# Altium schematic symbol library microchip.SCHLIB: 312 symbols (part 2 of 5)
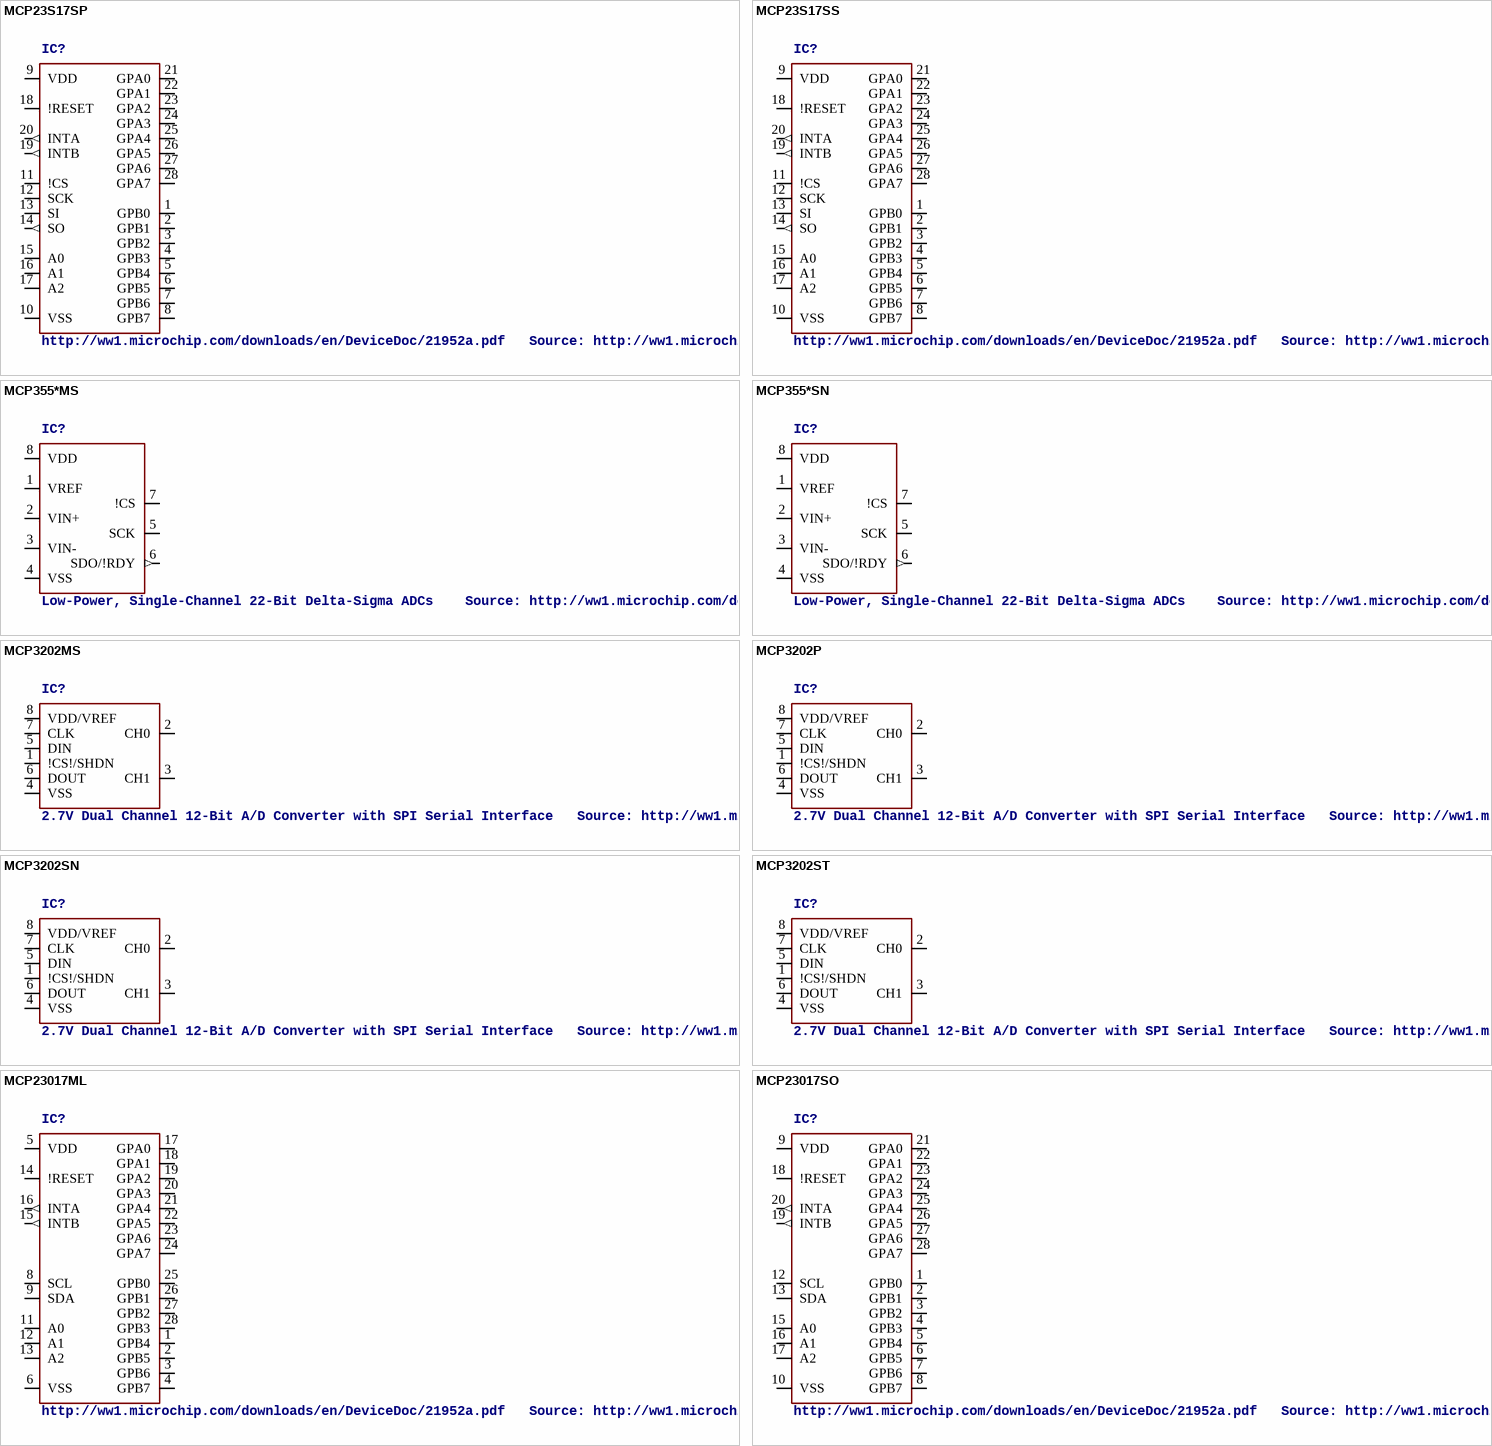
[diagram p44: symbols MCP23S17SP to MCP23017SO]

## MCP355*SN
designator IC?, comment Low-Power, Single-Channel 22-Bit Delta-Sigma ADCs    Source: http://ww1.microchip.com/downloads/en/DeviceDoc/21950c.pdf
MPN: MCP3550-50-E/SN; MPN: MCP3550-60E/SN; MPN: MCP3551-E/SN; MPN: MCP3553-E/SN; MF: MICROCHIP; OC_FARNELL: 1557411; OC_NEWARK: 69K0131; OC_FARNELL: 1840934; OC_NEWARK: 69K0135; OC_FARNELL: 1084625; OC_NEWARK: 97K4494; OC_FARNELL: 1605569; OC_NEWARK: 56K7004
footprint SO-08
pins: 1 VREF, 2 VIN+, 3 VIN-, 4 VSS (power), 5 SCK, 6 SDO/!RDY (out), 7 !CS, 8 VDD (power)

## MCP3202MS
designator IC?, comment 2.7V Dual Channel 12-Bit A/D Converter with SPI Serial Interface   Source: http://ww1.microchip.com/downloads/en/DeviceDoc/21034D.pdf
MPN: MCP3202-CI/MS; MF: MICROCHIP; OC_FARNELL: unknown; OC_NEWARK: 68H9370
footprint MSOP8
pins: 1 !CS!/SHDN, 2 CH0, 3 CH1, 4 VSS, 5 DIN, 6 DOUT, 7 CLK, 8 VDD/VREF

## MCP3202P
designator IC?, comment 2.7V Dual Channel 12-Bit A/D Converter with SPI Serial Interface   Source: http://ww1.microchip.com/downloads/en/DeviceDoc/21034D.pdf
MPN: MCP3202-CI/P; MF: MICROCHIP; OC_FARNELL: 1196794; OC_NEWARK: 72K7287
footprint DIL8
pins: 1 !CS!/SHDN, 2 CH0, 3 CH1, 4 VSS, 5 DIN, 6 DOUT, 7 CLK, 8 VDD/VREF

## MCP3202SN
designator IC?, comment 2.7V Dual Channel 12-Bit A/D Converter with SPI Serial Interface   Source: http://ww1.microchip.com/downloads/en/DeviceDoc/21034D.pdf
MPN: MCP3202-CI/SN; MF: MICROCHIP; OC_FARNELL: 1196803; OC_NEWARK: 19C7207
footprint SO-08
pins: 1 !CS!/SHDN, 2 CH0, 3 CH1, 4 VSS, 5 DIN, 6 DOUT, 7 CLK, 8 VDD/VREF

## MCP3202ST
designator IC?, comment 2.7V Dual Channel 12-Bit A/D Converter with SPI Serial Interface   Source: http://ww1.microchip.com/downloads/en/DeviceDoc/21034D.pdf
MPN: MCP3202-CI/ST; MF: MICROCHIP; OC_FARNELL: unknown; OC_NEWARK: 59K0226
footprint TSSOP8
pins: 1 !CS!/SHDN, 2 CH0, 3 CH1, 4 VSS, 5 DIN, 6 DOUT, 7 CLK, 8 VDD/VREF

## MCP23017ML
designator IC?, comment http://ww1.microchip.com/downloads/en/DeviceDoc/21952a.pdf   Source: http://ww1.microchip.com/downloads/en/DeviceDoc/21952a.pdf
MPN: MCP23017-E/ML; MF: MICROCHIP; OC_FARNELL: unknown; OC_NEWARK: 31K2957
footprint QFN28-ML_6X6MM
pins: 1 GPB4, 2 GPB5, 3 GPB6, 4 GPB7, 5 VDD (power), 6 VSS (power), 8 SCL, 9 SDA, 11 A0, 12 A1, 13 A2, 14 !RESET, 15 INTB (out), 16 INTA (out), 17 GPA0, 18 GPA1, 19 GPA2, 20 GPA3, 21 GPA4, 22 GPA5, 23 GPA6, 24 GPA7, 25 GPB0, 26 GPB1, 27 GPB2, 28 GPB3

## MCP23017SO
designator IC?, comment http://ww1.microchip.com/downloads/en/DeviceDoc/21952a.pdf   Source: http://ww1.microchip.com/downloads/en/DeviceDoc/21952a.pdf
MPN: MCP23017-E/SO; MF: MICROCHIP; OC_FARNELL: 1332087; OC_NEWARK: 31K2958
footprint SO28W
pins: 1 GPB0, 2 GPB1, 3 GPB2, 4 GPB3, 5 GPB4, 6 GPB5, 7 GPB6, 8 GPB7, 9 VDD (power), 10 VSS (power), 12 SCL, 13 SDA, 15 A0, 16 A1, 17 A2, 18 !RESET, 19 INTB (out), 20 INTA (out), 21 GPA0, 22 GPA1, 23 GPA2, 24 GPA3, 25 GPA4, 26 GPA5, 27 GPA6, 28 GPA7

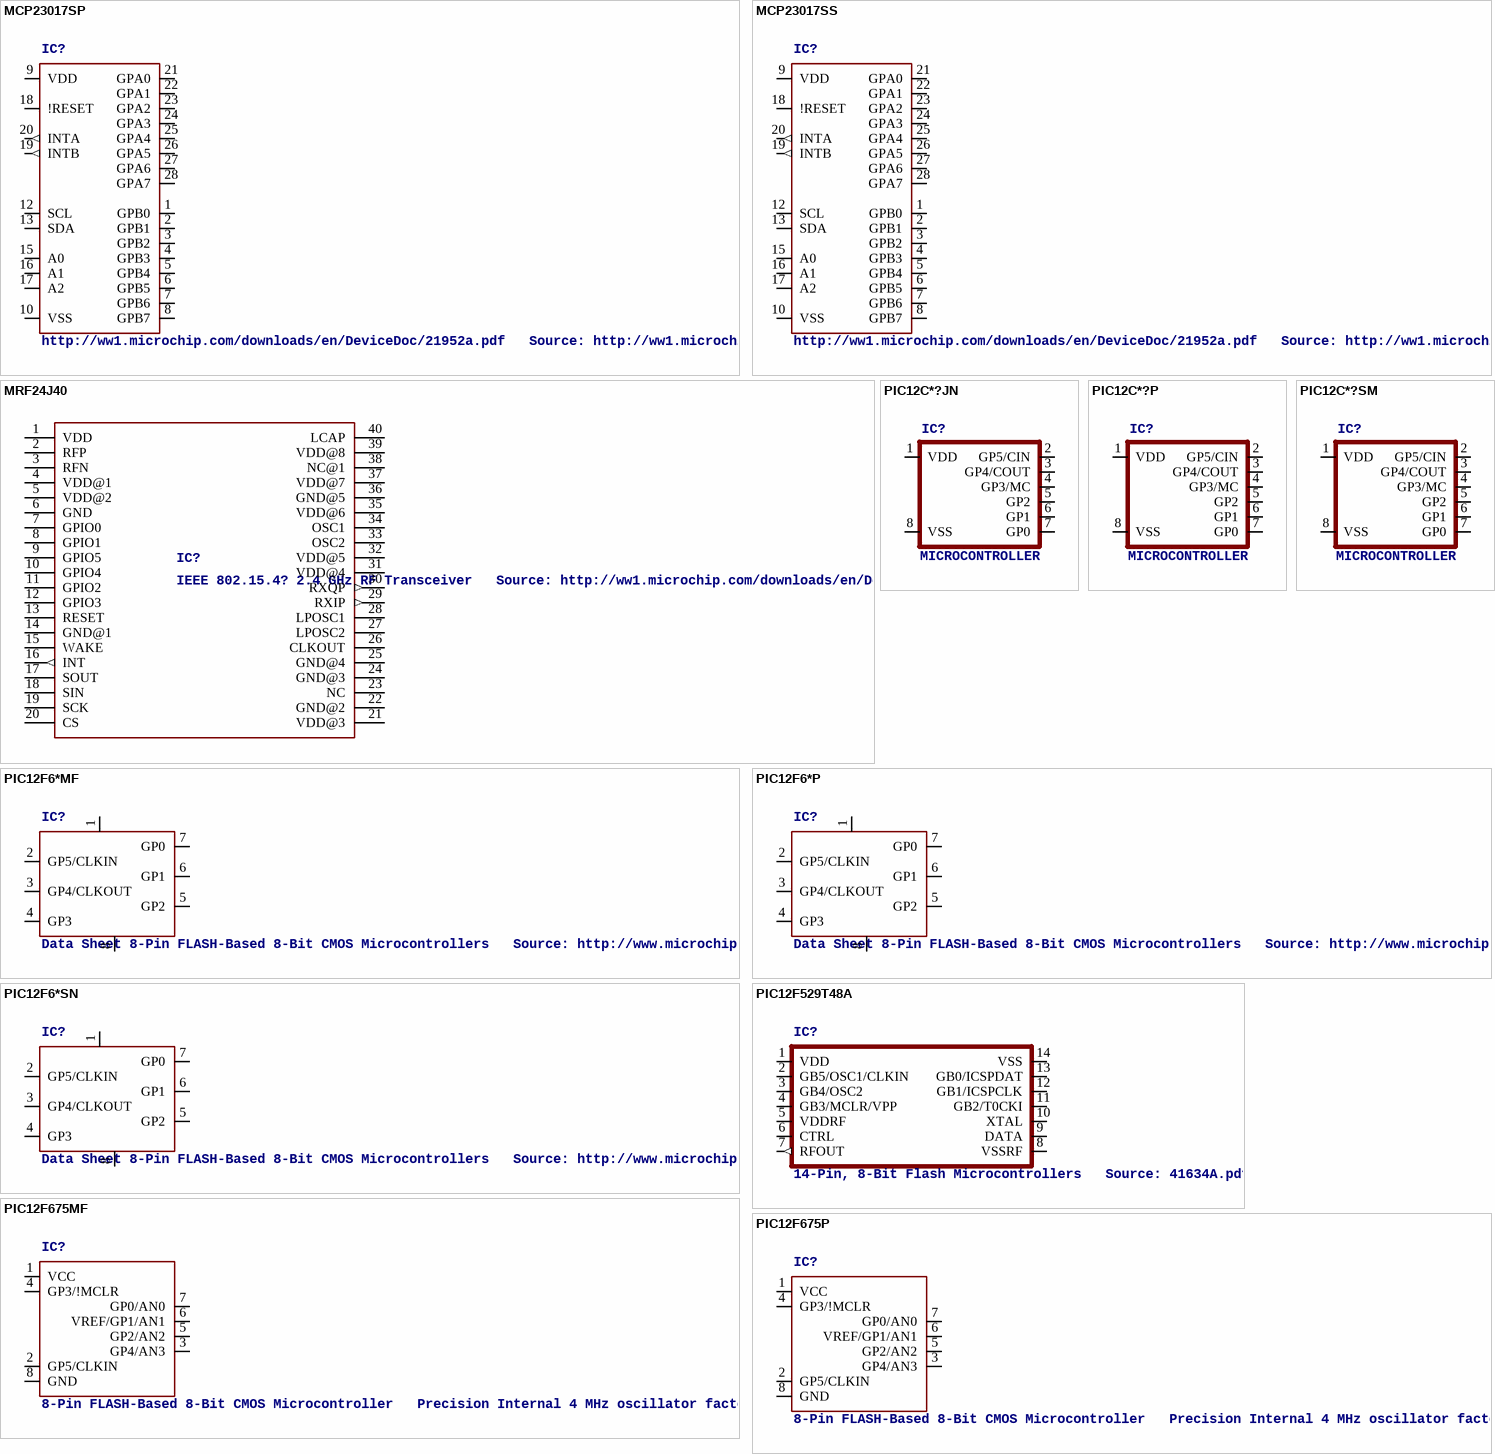
[diagram p9: symbols MCP23017SP to PIC12F675P]

## MCP23017SP
designator IC?, comment http://ww1.microchip.com/downloads/en/DeviceDoc/21952a.pdf   Source: http://ww1.microchip.com/downloads/en/DeviceDoc/21952a.pdf
MPN: MCP23017-E/SP; MF: MICROCHIP; OC_FARNELL: 1332088; OC_NEWARK: 31K2959
footprint DIL28-3
pins: 1 GPB0, 2 GPB1, 3 GPB2, 4 GPB3, 5 GPB4, 6 GPB5, 7 GPB6, 8 GPB7, 9 VDD (power), 10 VSS (power), 12 SCL, 13 SDA, 15 A0, 16 A1, 17 A2, 18 !RESET, 19 INTB (out), 20 INTA (out), 21 GPA0, 22 GPA1, 23 GPA2, 24 GPA3, 25 GPA4, 26 GPA5, 27 GPA6, 28 GPA7

## MCP23017SS
designator IC?, comment http://ww1.microchip.com/downloads/en/DeviceDoc/21952a.pdf   Source: http://ww1.microchip.com/downloads/en/DeviceDoc/21952a.pdf
MPN: MCP23017-E/SS; MF: MICROCHIP; OC_FARNELL: 1467674; OC_NEWARK: 31K2960
footprint SSOP28
pins: 1 GPB0, 2 GPB1, 3 GPB2, 4 GPB3, 5 GPB4, 6 GPB5, 7 GPB6, 8 GPB7, 9 VDD (power), 10 VSS (power), 12 SCL, 13 SDA, 15 A0, 16 A1, 17 A2, 18 !RESET, 19 INTB (out), 20 INTA (out), 21 GPA0, 22 GPA1, 23 GPA2, 24 GPA3, 25 GPA4, 26 GPA5, 27 GPA6, 28 GPA7

## MRF24J40
designator IC?, comment IEEE 802.15.4? 2.4 GHz RF Transceiver   Source: http://ww1.microchip.com/downloads/en/DeviceDoc/39776a.pdf
MPN: MRF24J40-I/ML; OC_FARNELL: 1436019; OC_NEWARK: 17M0699
footprint QFN40ML6X6MM
pins: 1 VDD (power), 2 RFP, 3 RFN, 4 VDD@1 (power), 5 VDD@2 (power), 6 GND (power), 7 GPIO0, 8 GPIO1, 9 GPIO5, 10 GPIO4, 11 GPIO2, 12 GPIO3, 13 RESET, 14 GND@1 (power), 15 WAKE, 16 INT (out), 17 SOUT, 18 SIN, 19 SCK, 20 CS, 21 VDD@3 (power), 22 GND@2 (power), 23 NC, 24 GND@3 (power), 25 GND@4 (power), 26 CLKOUT, 27 LPOSC2, 28 LPOSC1, 29 RXIP (out), 30 RXQP (out), 31 VDD@4 (power), 32 VDD@5 (power), 33 OSC2, 34 OSC1, 35 VDD@6 (power), 36 GND@5 (power), 37 VDD@7 (power), 38 NC@1, 39 VDD@8 (power), 40 LCAP

## PIC12C*?JN
designator IC?, comment MICROCONTROLLER
MPN: PIC12C508-04/P; MPN: PIC12C509A-04I/P; MPN: PIC12C671-10I/P; MPN: PIC12C672-04/P; MF: MICROCHIP; OC_FARNELL: 9758771; OC_NEWARK: 60K6710; OC_FARNELL: 9758828; OC_NEWARK: 23C2958; OC_FARNELL: 1084238; OC_NEWARK: 34M7956; OC_FARNELL: 9758887; OC_NEWARK: 59K0241
footprint DIL8
pins: 1 VDD (power), 2 GP5/CIN, 3 GP4/COUT, 4 GP3/MC, 5 GP2, 6 GP1, 7 GP0, 8 VSS (power)

## PIC12C*?P
designator IC?, comment MICROCONTROLLER
MPN: PIC12C508A-04I/P; MPN: PIC12C509-04/P; MPN: PIC12C671-10/P; MPN: PIC12C672-04/P; MF: MICROCHIP; OC_FARNELL: 9758763; OC_NEWARK: 12C1849; OC_FARNELL: 9758810; OC_NEWARK: 54K2820; OC_FARNELL: 9758860; OC_NEWARK: 23C2974; OC_FARNELL: 9758887; OC_NEWARK: 59K0241
footprint DIL8
pins: 1 VDD (power), 2 GP5/CIN, 3 GP4/COUT, 4 GP3/MC, 5 GP2, 6 GP1, 7 GP0, 8 VSS (power)

## PIC12C*?SM
designator IC?, comment MICROCONTROLLER
MPN: PIC12C508-04I/SM; MPN: PIC12C509A-04I/SM; MPN: PIC12C671-10I/SM; MPN: PIC12C672-04/SM; MF: MICROCHIP; OC_FARNELL: 1196846; OC_NEWARK: 96K3762; OC_FARNELL: 9758844; OC_NEWARK: 65K1035; OC_FARNELL: 1196776; OC_NEWARK: 24M5845; OC_FARNELL: 1137297; OC_NEWARK: 72K7294
footprint SO-08M
pins: 1 VDD (power), 2 GP5/CIN, 3 GP4/COUT, 4 GP3/MC, 5 GP2, 6 GP1, 7 GP0, 8 VSS (power)

## PIC12F6*MF
designator IC?, comment Data Sheet 8-Pin FLASH-Based 8-Bit CMOS Microcontrollers   Source: http://www.microchip.com .. 41190c.pdf
MPN: PIC12F629-I/MD; MPN: PIC12F675-I/MD; MF: MICROCHIP; OC_FARNELL: 1618004; OC_NEWARK: 56K7222; OC_FARNELL: unknown; OC_NEWARK: 56K7227
footprint DFN-S
pins: 1 VDD (power), 2 GP5/CLKIN, 3 GP4/CLKOUT, 4 GP3, 5 GP2, 6 GP1, 7 GP0, 8 VSS (power)

## PIC12F6*P
designator IC?, comment Data Sheet 8-Pin FLASH-Based 8-Bit CMOS Microcontrollers   Source: http://www.microchip.com .. 41190c.pdf
MPN: PIC12F629-I/P; MPN: PIC12F675-E/P; MF: MICROCHIP; OC_FARNELL: 1292253; OC_NEWARK: 67K0822; OC_FARNELL: 9759018; OC_NEWARK: 92C4340
footprint DIL8
pins: 1 VDD (power), 2 GP5/CLKIN, 3 GP4/CLKOUT, 4 GP3, 5 GP2, 6 GP1, 7 GP0, 8 VSS (power)

## PIC12F6*SN
designator IC?, comment Data Sheet 8-Pin FLASH-Based 8-Bit CMOS Microcontrollers   Source: http://www.microchip.com .. 41190c.pdf
MPN: PIC12F629-I/SN; MPN: PIC12F675-E/SN; MF: MICROCHIP; OC_FARNELL: 9759000; OC_NEWARK: 61K3433; OC_FARNELL: 9759026; OC_NEWARK: 92C4341
footprint SO-08
pins: 1 VDD (power), 2 GP5/CLKIN, 3 GP4/CLKOUT, 4 GP3, 5 GP2, 6 GP1, 7 GP0, 8 VSS (power)

## PIC12F529T48A
designator IC?, comment 14-Pin, 8-Bit Flash Microcontrollers   Source: 41634A.pdf
footprint TSSOP14
pins: 1 VDD (power), 2 GB5/OSC1/CLKIN (hiz), 3 GB4/OSC2 (hiz), 4 GB3/MCLR/VPP, 5 VDDRF, 6 CTRL, 7 RFOUT (out), 8 VSSRF, 9 DATA, 10 XTAL, 11 GB2/T0CKI (hiz), 12 GB1/ICSPCLK (hiz), 13 GB0/ICSPDAT (hiz), 14 VSS (power)

## PIC12F675MF
designator IC?, comment 8-Pin FLASH-Based 8-Bit CMOS Microcontroller   Precision Internal 4 MHz oscillator factory calibrated to ±1% Low Power Features: Standby Current:  - 1 nA @ 2.0V, typical Operating Current:  - 8.5&micro;A @ 32 kHz, 2.0V, typical  - 100&micro;A @ 1 MHz, 2.0V, typical  Watchdog Timer Current:  - 300 nA @ 2.0V, typical Timer1 oscillator current: - 4&micro;A @ 32 kHz, 2.0V, typical Analog-to-Digital Converter module: - 10-bit resolution - Programmable 4-channel input - Voltage reference input   Source: http://www.microchip.com .. 41190E.pdf
MPN: PIC12F675-I/MF; MF: MICROCHIP; OC_FARNELL: unknown; OC_NEWARK: 96K3774
footprint DFN-S
pins: 1 VCC (power), 2 GP5/CLKIN, 3 GP4/AN3, 4 GP3/!MCLR, 5 GP2/AN2, 6 VREF/GP1/AN1, 7 GP0/AN0, 8 GND (power)

## PIC12F675P
designator IC?, comment 8-Pin FLASH-Based 8-Bit CMOS Microcontroller   Precision Internal 4 MHz oscillator factory calibrated to ±1% Low Power Features: Standby Current:  - 1 nA @ 2.0V, typical Operating Current:  - 8.5&micro;A @ 32 kHz, 2.0V, typical  - 100&micro;A @ 1 MHz, 2.0V, typical  Watchdog Timer Current:  - 300 nA @ 2.0V, typical Timer1 oscillator current: - 4&micro;A @ 32 kHz, 2.0V, typical Analog-to-Digital Converter module: - 10-bit resolution - Programmable 4-channel input - Voltage reference input   Source: http://www.microchip.com .. 41190E.pdf
MPN: PIC12F675-E/P; MF: MICROCHIP; OC_FARNELL: 9759018; OC_NEWARK: 92C4340
footprint DIL8
pins: 1 VCC (power), 2 GP5/CLKIN, 3 GP4/AN3, 4 GP3/!MCLR, 5 GP2/AN2, 6 VREF/GP1/AN1, 7 GP0/AN0, 8 GND (power)

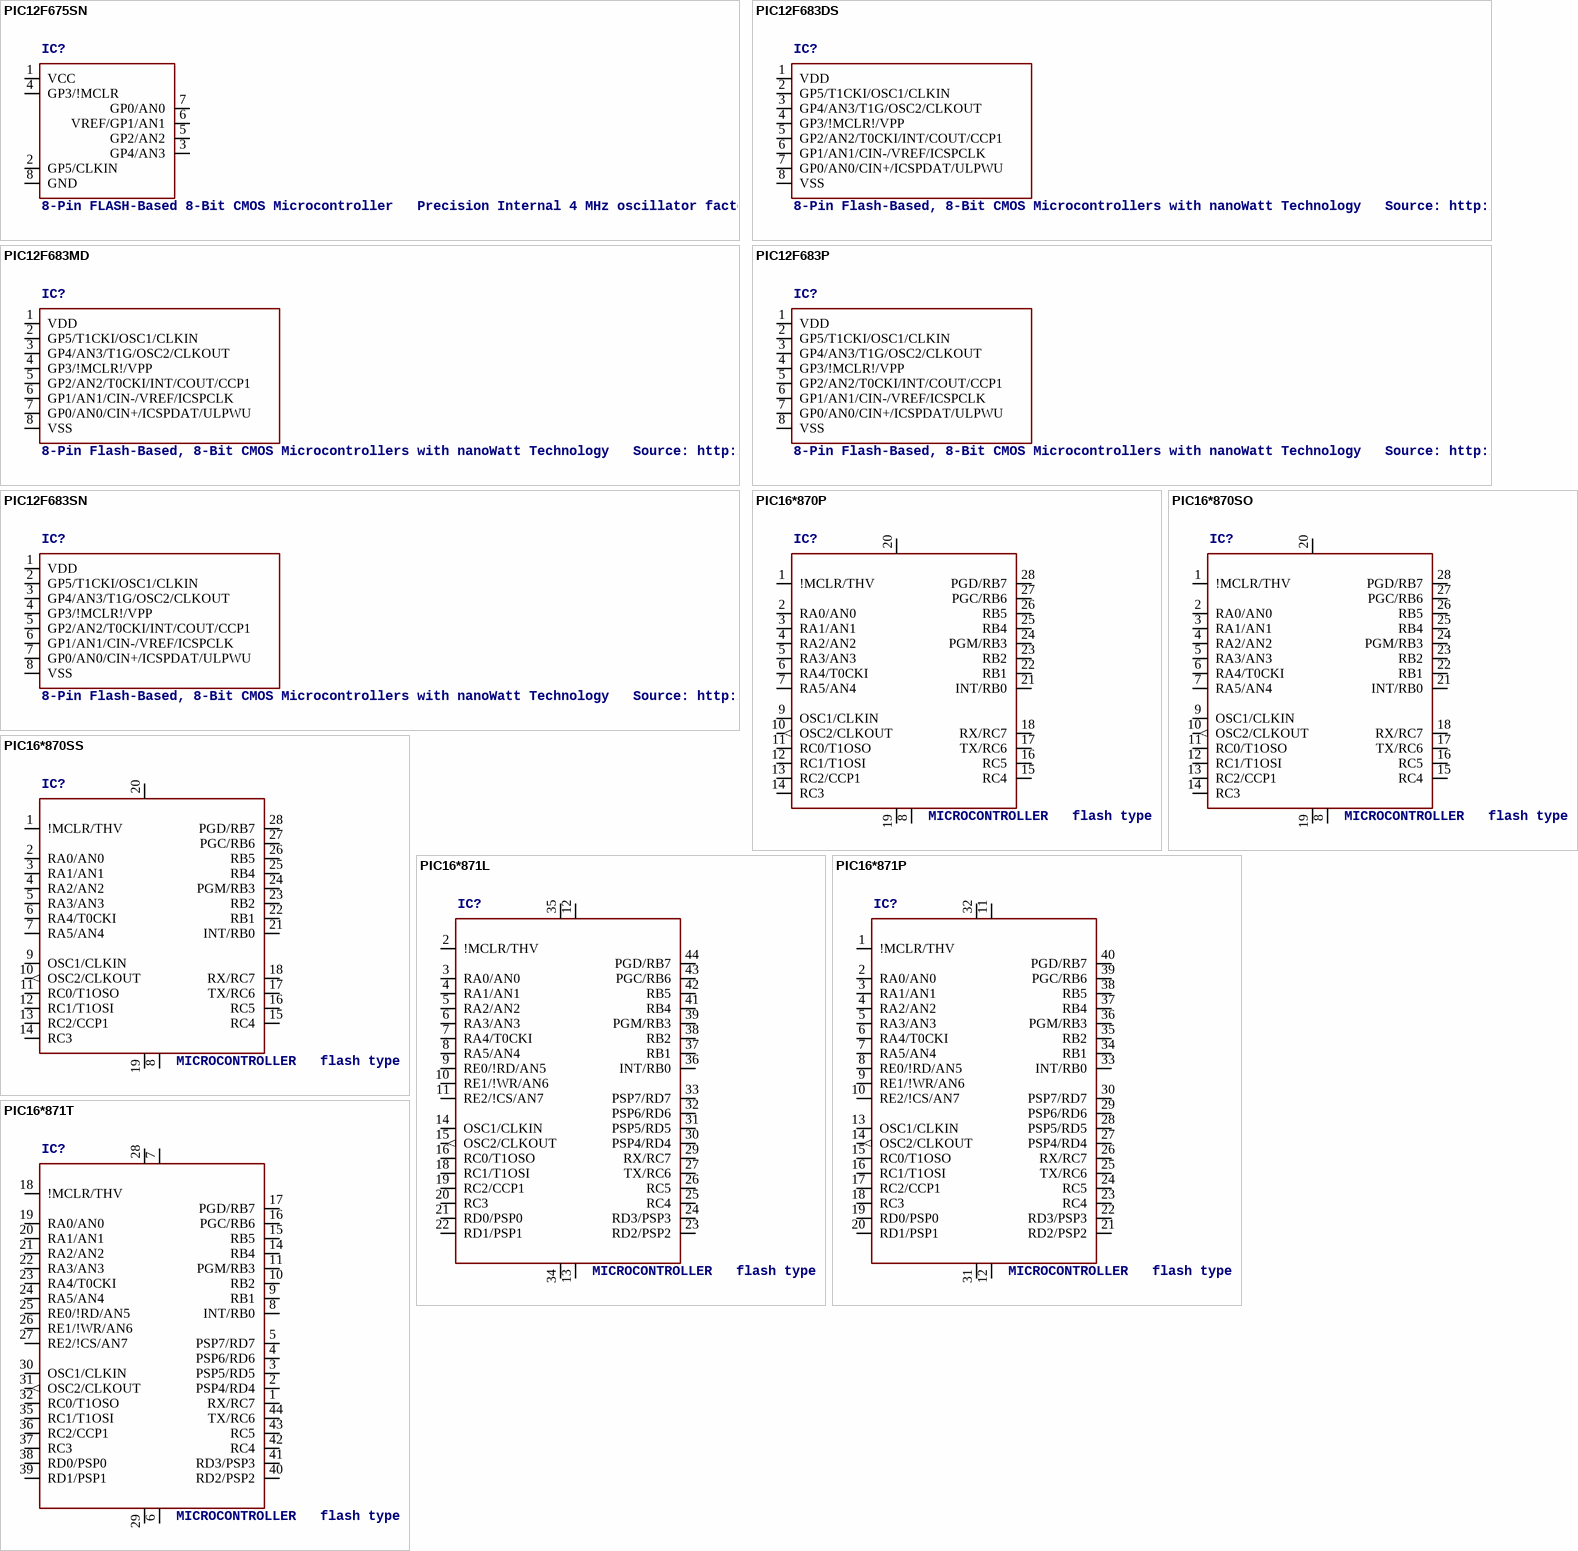
[diagram p10: symbols PIC12F675SN to PIC16*871T]

## PIC12F675SN
designator IC?, comment 8-Pin FLASH-Based 8-Bit CMOS Microcontroller   Precision Internal 4 MHz oscillator factory calibrated to ±1% Low Power Features: Standby Current:  - 1 nA @ 2.0V, typical Operating Current:  - 8.5&micro;A @ 32 kHz, 2.0V, typical  - 100&micro;A @ 1 MHz, 2.0V, typical  Watchdog Timer Current:  - 300 nA @ 2.0V, typical Timer1 oscillator current: - 4&micro;A @ 32 kHz, 2.0V, typical Analog-to-Digital Converter module: - 10-bit resolution - Programmable 4-channel input - Voltage reference input   Source: http://www.microchip.com .. 41190E.pdf
MPN: PIC12F675-E/SN; MF: MICROCHIP; OC_FARNELL: 9759026; OC_NEWARK: 92C4341
footprint SO-08
pins: 1 VCC (power), 2 GP5/CLKIN, 3 GP4/AN3, 4 GP3/!MCLR, 5 GP2/AN2, 6 VREF/GP1/AN1, 7 GP0/AN0, 8 GND (power)

## PIC12F683DS
designator IC?, comment 8-Pin Flash-Based, 8-Bit CMOS Microcontrollers with nanoWatt Technology   Source: http://ww1.microchip.com/downloads/en/DeviceDoc/41211D_.pdf
MPN: PIC12F683-I/MF; MF: MICROCHIP; OC_FARNELL: 1137331; OC_NEWARK: 89H0441
footprint DFN-S
pins: 1 VDD (power), 2 GP5/T1CKI/OSC1/CLKIN, 3 GP4/AN3/T1G/OSC2/CLKOUT, 4 GP3/!MCLR!/VPP, 5 GP2/AN2/T0CKI/INT/COUT/CCP1, 6 GP1/AN1/CIN-/VREF/ICSPCLK, 7 GP0/AN0/CIN+/ICSPDAT/ULPWU, 8 VSS (power)

## PIC12F683MD
designator IC?, comment 8-Pin Flash-Based, 8-Bit CMOS Microcontrollers with nanoWatt Technology   Source: http://ww1.microchip.com/downloads/en/DeviceDoc/41211D_.pdf
MPN: PIC12F683-I/MD; MF: MICROCHIP; OC_FARNELL: 4057368; OC_NEWARK: 56K7230
footprint DFN8-4X4
pins: 1 VDD (power), 2 GP5/T1CKI/OSC1/CLKIN, 3 GP4/AN3/T1G/OSC2/CLKOUT, 4 GP3/!MCLR!/VPP, 5 GP2/AN2/T0CKI/INT/COUT/CCP1, 6 GP1/AN1/CIN-/VREF/ICSPCLK, 7 GP0/AN0/CIN+/ICSPDAT/ULPWU, 8 VSS (power)

## PIC12F683P
designator IC?, comment 8-Pin Flash-Based, 8-Bit CMOS Microcontrollers with nanoWatt Technology   Source: http://ww1.microchip.com/downloads/en/DeviceDoc/41211D_.pdf
MPN: PIC12F683-I/P; MF: MICROCHIP; OC_FARNELL: 9759034; OC_NEWARK: 89H0442
footprint DIL8
pins: 1 VDD (power), 2 GP5/T1CKI/OSC1/CLKIN, 3 GP4/AN3/T1G/OSC2/CLKOUT, 4 GP3/!MCLR!/VPP, 5 GP2/AN2/T0CKI/INT/COUT/CCP1, 6 GP1/AN1/CIN-/VREF/ICSPCLK, 7 GP0/AN0/CIN+/ICSPDAT/ULPWU, 8 VSS (power)

## PIC12F683SN
designator IC?, comment 8-Pin Flash-Based, 8-Bit CMOS Microcontrollers with nanoWatt Technology   Source: http://ww1.microchip.com/downloads/en/DeviceDoc/41211D_.pdf
MPN: PIC12F683-I/SN; MF: MICROCHIP; OC_FARNELL: 9759042; OC_NEWARK: 61K3434
footprint SO-08
pins: 1 VDD (power), 2 GP5/T1CKI/OSC1/CLKIN, 3 GP4/AN3/T1G/OSC2/CLKOUT, 4 GP3/!MCLR!/VPP, 5 GP2/AN2/T0CKI/INT/COUT/CCP1, 6 GP1/AN1/CIN-/VREF/ICSPCLK, 7 GP0/AN0/CIN+/ICSPDAT/ULPWU, 8 VSS (power)

## PIC16*870P
designator IC?, comment MICROCONTROLLER   flash type
MPN: PIC16F870-I/SP; MPN: PIC16LF870-I/SP; MF: MICROCHIP; OC_FARNELL: 9760954; OC_NEWARK: 19C7275; OC_FARNELL: 1579594; OC_NEWARK: 69K7641
footprint DIL28-3
pins: 1 !MCLR/THV, 2 RA0/AN0, 3 RA1/AN1, 4 RA2/AN2, 5 RA3/AN3, 6 RA4/T0CKI, 7 RA5/AN4, 8 VSS (power), 9 OSC1/CLKIN, 10 OSC2/CLKOUT (out), 11 RC0/T1OSO, 12 RC1/T1OSI, 13 RC2/CCP1, 14 RC3, 15 RC4, 16 RC5, 17 TX/RC6, 18 RX/RC7, 19 VSS@1 (power), 20 VDD (power), 21 INT/RB0, 22 RB1, 23 RB2, 24 PGM/RB3, 25 RB4, 26 RB5, 27 PGC/RB6, 28 PGD/RB7

## PIC16*870SO
designator IC?, comment MICROCONTROLLER   flash type
MPN: PIC16F870-I/SO; MPN: PIC16LF870-I/SO; MF: MICROCHIP; OC_FARNELL: 9760946; OC_NEWARK: 61K3457; OC_FARNELL: 1815914; OC_NEWARK: 23C5702
footprint SO28W
pins: 1 !MCLR/THV, 2 RA0/AN0, 3 RA1/AN1, 4 RA2/AN2, 5 RA3/AN3, 6 RA4/T0CKI, 7 RA5/AN4, 8 VSS (power), 9 OSC1/CLKIN, 10 OSC2/CLKOUT (out), 11 RC0/T1OSO, 12 RC1/T1OSI, 13 RC2/CCP1, 14 RC3, 15 RC4, 16 RC5, 17 TX/RC6, 18 RX/RC7, 19 VSS@1 (power), 20 VDD (power), 21 INT/RB0, 22 RB1, 23 RB2, 24 PGM/RB3, 25 RB4, 26 RB5, 27 PGC/RB6, 28 PGD/RB7

## PIC16*870SS
designator IC?, comment MICROCONTROLLER   flash type
MPN: PIC16F870-I/SS; MPN: PIC16LF870-I/SS; MF: MICROCHIP; OC_FARNELL: 9760962; OC_NEWARK: 96K3885; OC_FARNELL: 1818506; OC_NEWARK: 23C5704
footprint SSOP28
pins: 1 !MCLR/THV, 2 RA0/AN0, 3 RA1/AN1, 4 RA2/AN2, 5 RA3/AN3, 6 RA4/T0CKI, 7 RA5/AN4, 8 VSS (power), 9 OSC1/CLKIN, 10 OSC2/CLKOUT (out), 11 RC0/T1OSO, 12 RC1/T1OSI, 13 RC2/CCP1, 14 RC3, 15 RC4, 16 RC5, 17 TX/RC6, 18 RX/RC7, 19 VSS@1 (power), 20 VDD (power), 21 INT/RB0, 22 RB1, 23 RB2, 24 PGM/RB3, 25 RB4, 26 RB5, 27 PGC/RB6, 28 PGD/RB7

## PIC16*871L
designator IC?, comment MICROCONTROLLER   flash type
MPN: PIC16LF871-I/L; MF: MICROCHIP; OC_FARNELL: 9760970; OC_NEWARK: unknown; OC_FARNELL: 9761705; OC_NEWARK: 23C5707
footprint PLCC-44
pins: 2 !MCLR/THV, 3 RA0/AN0, 4 RA1/AN1, 5 RA2/AN2, 6 RA3/AN3, 7 RA4/T0CKI, 8 RA5/AN4, 9 RE0/!RD/AN5, 10 RE1/!WR/AN6, 11 RE2/!CS/AN7, 12 VDD (power), 13 VSS (power), 14 OSC1/CLKIN, 15 OSC2/CLKOUT (out), 16 RC0/T1OSO, 18 RC1/T1OSI, 19 RC2/CCP1, 20 RC3, 21 RD0/PSP0, 22 RD1/PSP1, 23 RD2/PSP2, 24 RD3/PSP3, 25 RC4, 26 RC5, 27 TX/RC6, 29 RX/RC7, 30 PSP4/RD4, 31 PSP5/RD5, 32 PSP6/RD6, 33 PSP7/RD7, 34 VSS@1 (power), 35 VDD@1 (power), 36 INT/RB0, 37 RB1, 38 RB2, 39 PGM/RB3, 41 RB4, 42 RB5, 43 PGC/RB6, 44 PGD/RB7

## PIC16*871P
designator IC?, comment MICROCONTROLLER   flash type
MPN: PIC16F871-I/P; MPN: PIC16LF871-I/P; MF: MICROCHIP; OC_FARNELL: 9760989; OC_NEWARK: 80K6048; OC_FARNELL: 1084329; OC_NEWARK: 97K7488
footprint DIL40
pins: 1 !MCLR/THV, 2 RA0/AN0, 3 RA1/AN1, 4 RA2/AN2, 5 RA3/AN3, 6 RA4/T0CKI, 7 RA5/AN4, 8 RE0/!RD/AN5, 9 RE1/!WR/AN6, 10 RE2/!CS/AN7, 11 VDD (power), 12 VSS (power), 13 OSC1/CLKIN, 14 OSC2/CLKOUT (out), 15 RC0/T1OSO, 16 RC1/T1OSI, 17 RC2/CCP1, 18 RC3, 19 RD0/PSP0, 20 RD1/PSP1, 21 RD2/PSP2, 22 RD3/PSP3, 23 RC4, 24 RC5, 25 TX/RC6, 26 RX/RC7, 27 PSP4/RD4, 28 PSP5/RD5, 29 PSP6/RD6, 30 PSP7/RD7, 31 VSS@1 (power), 32 VDD@1 (power), 33 INT/RB0, 34 RB1, 35 RB2, 36 PGM/RB3, 37 RB4, 38 RB5, 39 PGC/RB6, 40 PGD/RB7

## PIC16*871T
designator IC?, comment MICROCONTROLLER   flash type
MPN: PIC16F871-I/PT; MPN: PIC16LF871-I/PT; MF: MICROCHIP; OC_FARNELL: 9760997; OC_NEWARK: 23C5040; OC_FARNELL: 9761713; OC_NEWARK: 23C5709
footprint TQFP44
pins: 1 RX/RC7, 2 PSP4/RD4, 3 PSP5/RD5, 4 PSP6/RD6, 5 PSP7/RD7, 6 VSS (power), 7 VDD (power), 8 INT/RB0, 9 RB1, 10 RB2, 11 PGM/RB3, 14 RB4, 15 RB5, 16 PGC/RB6, 17 PGD/RB7, 18 !MCLR/THV, 19 RA0/AN0, 20 RA1/AN1, 21 RA2/AN2, 22 RA3/AN3, 23 RA4/T0CKI, 24 RA5/AN4, 25 RE0/!RD/AN5, 26 RE1/!WR/AN6, 27 RE2/!CS/AN7, 28 VDD@1 (power), 29 VSS@1 (power), 30 OSC1/CLKIN, 31 OSC2/CLKOUT (out), 32 RC0/T1OSO, 35 RC1/T1OSI, 36 RC2/CCP1, 37 RC3, 38 RD0/PSP0, 39 RD1/PSP1, 40 RD2/PSP2, 41 RD3/PSP3, 42 RC4, 43 RC5, 44 TX/RC6

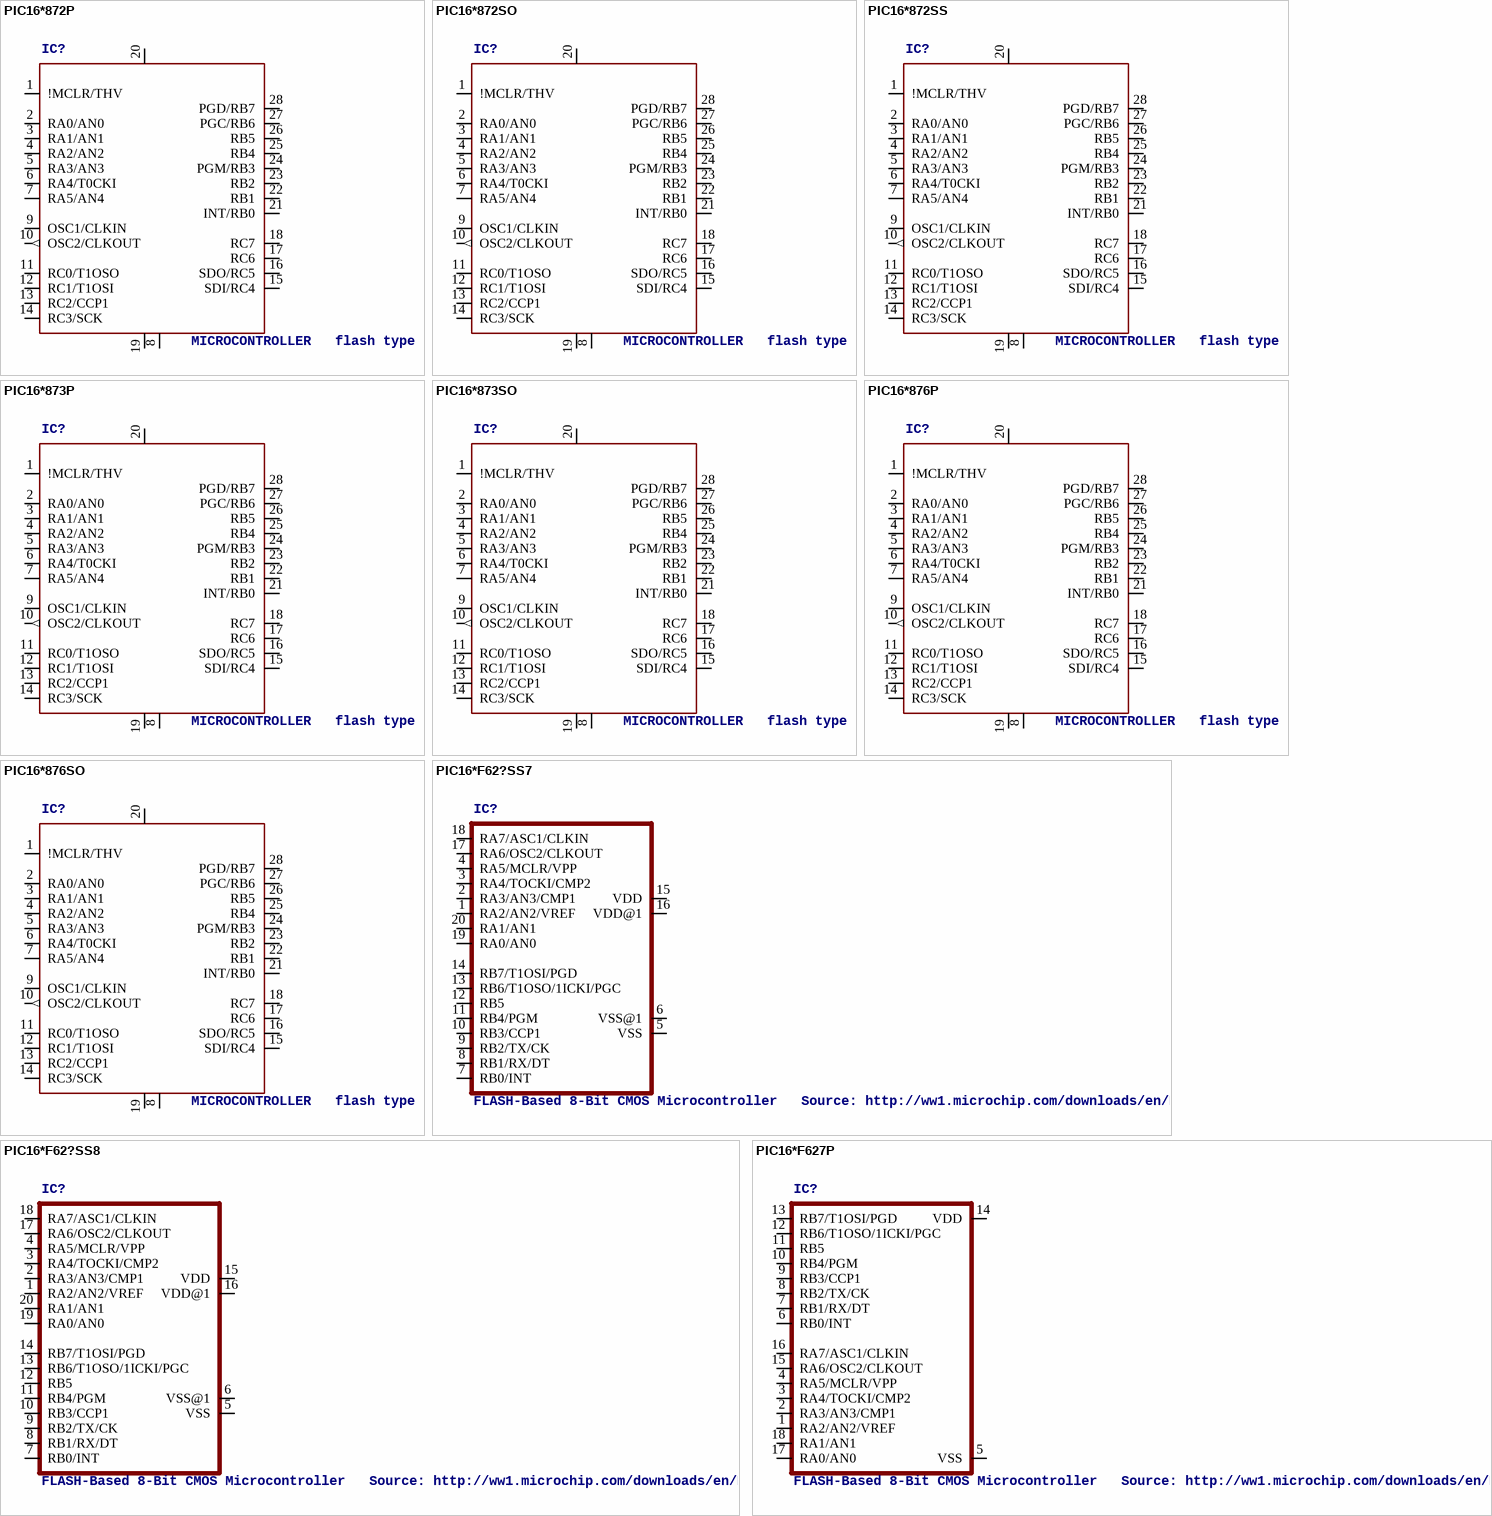
[diagram p11: symbols PIC16*872P to PIC16*F627P]

## PIC16*872P
designator IC?, comment MICROCONTROLLER   flash type
MPN: PIC16F872-I/SP; MPN: PIC16LF872-I/SP; MF: MICROCHIP; OC_FARNELL: 9761012; OC_NEWARK: 12C1945; OC_FARNELL: 9761730; OC_NEWARK: 97K7491
footprint DIL28-3
pins: 1 !MCLR/THV, 2 RA0/AN0, 3 RA1/AN1, 4 RA2/AN2, 5 RA3/AN3, 6 RA4/T0CKI, 7 RA5/AN4, 8 VSS (power), 9 OSC1/CLKIN, 10 OSC2/CLKOUT (out), 11 RC0/T1OSO, 12 RC1/T1OSI, 13 RC2/CCP1, 14 RC3/SCK, 15 SDI/RC4, 16 SDO/RC5, 17 RC6, 18 RC7, 19 VSS@1 (power), 20 VDD (power), 21 INT/RB0, 22 RB1, 23 RB2, 24 PGM/RB3, 25 RB4, 26 RB5, 27 PGC/RB6, 28 PGD/RB7

## PIC16*872SO
designator IC?, comment MICROCONTROLLER   flash type
MPN: PIC16F872-I/SO; MPN: PIC16LF872-I/SO; MF: MICROCHIP; OC_FARNELL: 9761004; OC_NEWARK: 96K3886; OC_FARNELL: 9761721; OC_NEWARK: 68K5334
footprint SO28W
pins: 1 !MCLR/THV, 2 RA0/AN0, 3 RA1/AN1, 4 RA2/AN2, 5 RA3/AN3, 6 RA4/T0CKI, 7 RA5/AN4, 8 VSS (power), 9 OSC1/CLKIN, 10 OSC2/CLKOUT (out), 11 RC0/T1OSO, 12 RC1/T1OSI, 13 RC2/CCP1, 14 RC3/SCK, 15 SDI/RC4, 16 SDO/RC5, 17 RC6, 18 RC7, 19 VSS@1 (power), 20 VDD (power), 21 INT/RB0, 22 RB1, 23 RB2, 24 PGM/RB3, 25 RB4, 26 RB5, 27 PGC/RB6, 28 PGD/RB7

## PIC16*872SS
designator IC?, comment MICROCONTROLLER   flash type
MPN: PIC16F872-I/SS; MPN: PIC16LF872-I/SS; MF: MICROCHIP; OC_FARNELL: 1084299; OC_NEWARK: 96K3887; OC_FARNELL: 9761748; OC_NEWARK: 23C5714
footprint SSOP28
pins: 1 !MCLR/THV, 2 RA0/AN0, 3 RA1/AN1, 4 RA2/AN2, 5 RA3/AN3, 6 RA4/T0CKI, 7 RA5/AN4, 8 VSS (power), 9 OSC1/CLKIN, 10 OSC2/CLKOUT (out), 11 RC0/T1OSO, 12 RC1/T1OSI, 13 RC2/CCP1, 14 RC3/SCK, 15 SDI/RC4, 16 SDO/RC5, 17 RC6, 18 RC7, 19 VSS@1 (power), 20 VDD (power), 21 INT/RB0, 22 RB1, 23 RB2, 24 PGM/RB3, 25 RB4, 26 RB5, 27 PGC/RB6, 28 PGD/RB7

## PIC16*873P
designator IC?, comment MICROCONTROLLER   flash type
OC_FARNELL: unknown; OC_NEWARK: unknown
footprint DIL28-3
pins: 1 !MCLR/THV, 2 RA0/AN0, 3 RA1/AN1, 4 RA2/AN2, 5 RA3/AN3, 6 RA4/T0CKI, 7 RA5/AN4, 8 VSS (power), 9 OSC1/CLKIN, 10 OSC2/CLKOUT (out), 11 RC0/T1OSO, 12 RC1/T1OSI, 13 RC2/CCP1, 14 RC3/SCK, 15 SDI/RC4, 16 SDO/RC5, 17 RC6, 18 RC7, 19 VSS@1 (power), 20 VDD (power), 21 INT/RB0, 22 RB1, 23 RB2, 24 PGM/RB3, 25 RB4, 26 RB5, 27 PGC/RB6, 28 PGD/RB7

## PIC16*873SO
designator IC?, comment MICROCONTROLLER   flash type
OC_FARNELL: unknown; OC_NEWARK: unknown
footprint SO28W
pins: 1 !MCLR/THV, 2 RA0/AN0, 3 RA1/AN1, 4 RA2/AN2, 5 RA3/AN3, 6 RA4/T0CKI, 7 RA5/AN4, 8 VSS (power), 9 OSC1/CLKIN, 10 OSC2/CLKOUT (out), 11 RC0/T1OSO, 12 RC1/T1OSI, 13 RC2/CCP1, 14 RC3/SCK, 15 SDI/RC4, 16 SDO/RC5, 17 RC6, 18 RC7, 19 VSS@1 (power), 20 VDD (power), 21 INT/RB0, 22 RB1, 23 RB2, 24 PGM/RB3, 25 RB4, 26 RB5, 27 PGC/RB6, 28 PGD/RB7

## PIC16*876P
designator IC?, comment MICROCONTROLLER   flash type
OC_FARNELL: unknown; OC_NEWARK: unknown
footprint DIL28-3
pins: 1 !MCLR/THV, 2 RA0/AN0, 3 RA1/AN1, 4 RA2/AN2, 5 RA3/AN3, 6 RA4/T0CKI, 7 RA5/AN4, 8 VSS (power), 9 OSC1/CLKIN, 10 OSC2/CLKOUT (out), 11 RC0/T1OSO, 12 RC1/T1OSI, 13 RC2/CCP1, 14 RC3/SCK, 15 SDI/RC4, 16 SDO/RC5, 17 RC6, 18 RC7, 19 VSS@1 (power), 20 VDD (power), 21 INT/RB0, 22 RB1, 23 RB2, 24 PGM/RB3, 25 RB4, 26 RB5, 27 PGC/RB6, 28 PGD/RB7

## PIC16*876SO
designator IC?, comment MICROCONTROLLER   flash type
MPN: PIC16F876-20/SO; MF: MICROCHIP; OC_FARNELL: 9761268; OC_NEWARK: 12C1950
footprint SO28W
pins: 1 !MCLR/THV, 2 RA0/AN0, 3 RA1/AN1, 4 RA2/AN2, 5 RA3/AN3, 6 RA4/T0CKI, 7 RA5/AN4, 8 VSS (power), 9 OSC1/CLKIN, 10 OSC2/CLKOUT (out), 11 RC0/T1OSO, 12 RC1/T1OSI, 13 RC2/CCP1, 14 RC3/SCK, 15 SDI/RC4, 16 SDO/RC5, 17 RC6, 18 RC7, 19 VSS@1 (power), 20 VDD (power), 21 INT/RB0, 22 RB1, 23 RB2, 24 PGM/RB3, 25 RB4, 26 RB5, 27 PGC/RB6, 28 PGD/RB7

## PIC16*F62?SS7
designator IC?, comment FLASH-Based 8-Bit CMOS Microcontroller   Source: http://ww1.microchip.com/downloads/en/DeviceDoc/40300C.pdf
MPN: PIC16F627-04I/SS; MPN: PIC16LF627-04/SS; OC_FARNELL: 9760300; OC_NEWARK: 97K7324; MF: MICROCHIP; OC_FARNELL: unknown; OC_NEWARK: 88K1158
footprint SSOP20
pins: 1 RA2/AN2/VREF, 2 RA3/AN3/CMP1, 3 RA4/TOCKI/CMP2, 4 RA5/MCLR/VPP, 5 VSS (power), 6 VSS@1 (power), 7 RB0/INT, 8 RB1/RX/DT, 9 RB2/TX/CK, 10 RB3/CCP1, 11 RB4/PGM, 12 RB5, 13 RB6/T1OSO/1ICKI/PGC, 14 RB7/T1OSI/PGD, 15 VDD (power), 16 VDD@1 (power), 17 RA6/OSC2/CLKOUT, 18 RA7/ASC1/CLKIN, 19 RA0/AN0, 20 RA1/AN1

## PIC16*F62?SS8
designator IC?, comment FLASH-Based 8-Bit CMOS Microcontroller   Source: http://ww1.microchip.com/downloads/en/DeviceDoc/40300C.pdf
MPN: PIC16F628-20/SS; MF: MICROCHIP; OC_FARNELL: 9760440; OC_NEWARK: 23C4984
footprint SSOP20
pins: 1 RA2/AN2/VREF, 2 RA3/AN3/CMP1, 3 RA4/TOCKI/CMP2, 4 RA5/MCLR/VPP, 5 VSS (power), 6 VSS@1 (power), 7 RB0/INT, 8 RB1/RX/DT, 9 RB2/TX/CK, 10 RB3/CCP1, 11 RB4/PGM, 12 RB5, 13 RB6/T1OSO/1ICKI/PGC, 14 RB7/T1OSI/PGD, 15 VDD (power), 16 VDD@1 (power), 17 RA6/OSC2/CLKOUT, 18 RA7/ASC1/CLKIN, 19 RA0/AN0, 20 RA1/AN1

## PIC16*F627P
designator IC?, comment FLASH-Based 8-Bit CMOS Microcontroller   Source: http://ww1.microchip.com/downloads/en/DeviceDoc/40300C.pdf
MPN: PIC16F627-20I/P; MPN: PIC16LF627-04/P; MF: MICROCHIP; OC_FARNELL: 1084298; OC_NEWARK: 23C4967; OC_FARNELL: unknown; OC_NEWARK: 23C5660
footprint DIL18
pins: 1 RA2/AN2/VREF, 2 RA3/AN3/CMP1, 3 RA4/TOCKI/CMP2, 4 RA5/MCLR/VPP, 5 VSS (power), 6 RB0/INT, 7 RB1/RX/DT, 8 RB2/TX/CK, 9 RB3/CCP1, 10 RB4/PGM, 11 RB5, 12 RB6/T1OSO/1ICKI/PGC, 13 RB7/T1OSI/PGD, 14 VDD (power), 15 RA6/OSC2/CLKOUT, 16 RA7/ASC1/CLKIN, 17 RA0/AN0, 18 RA1/AN1

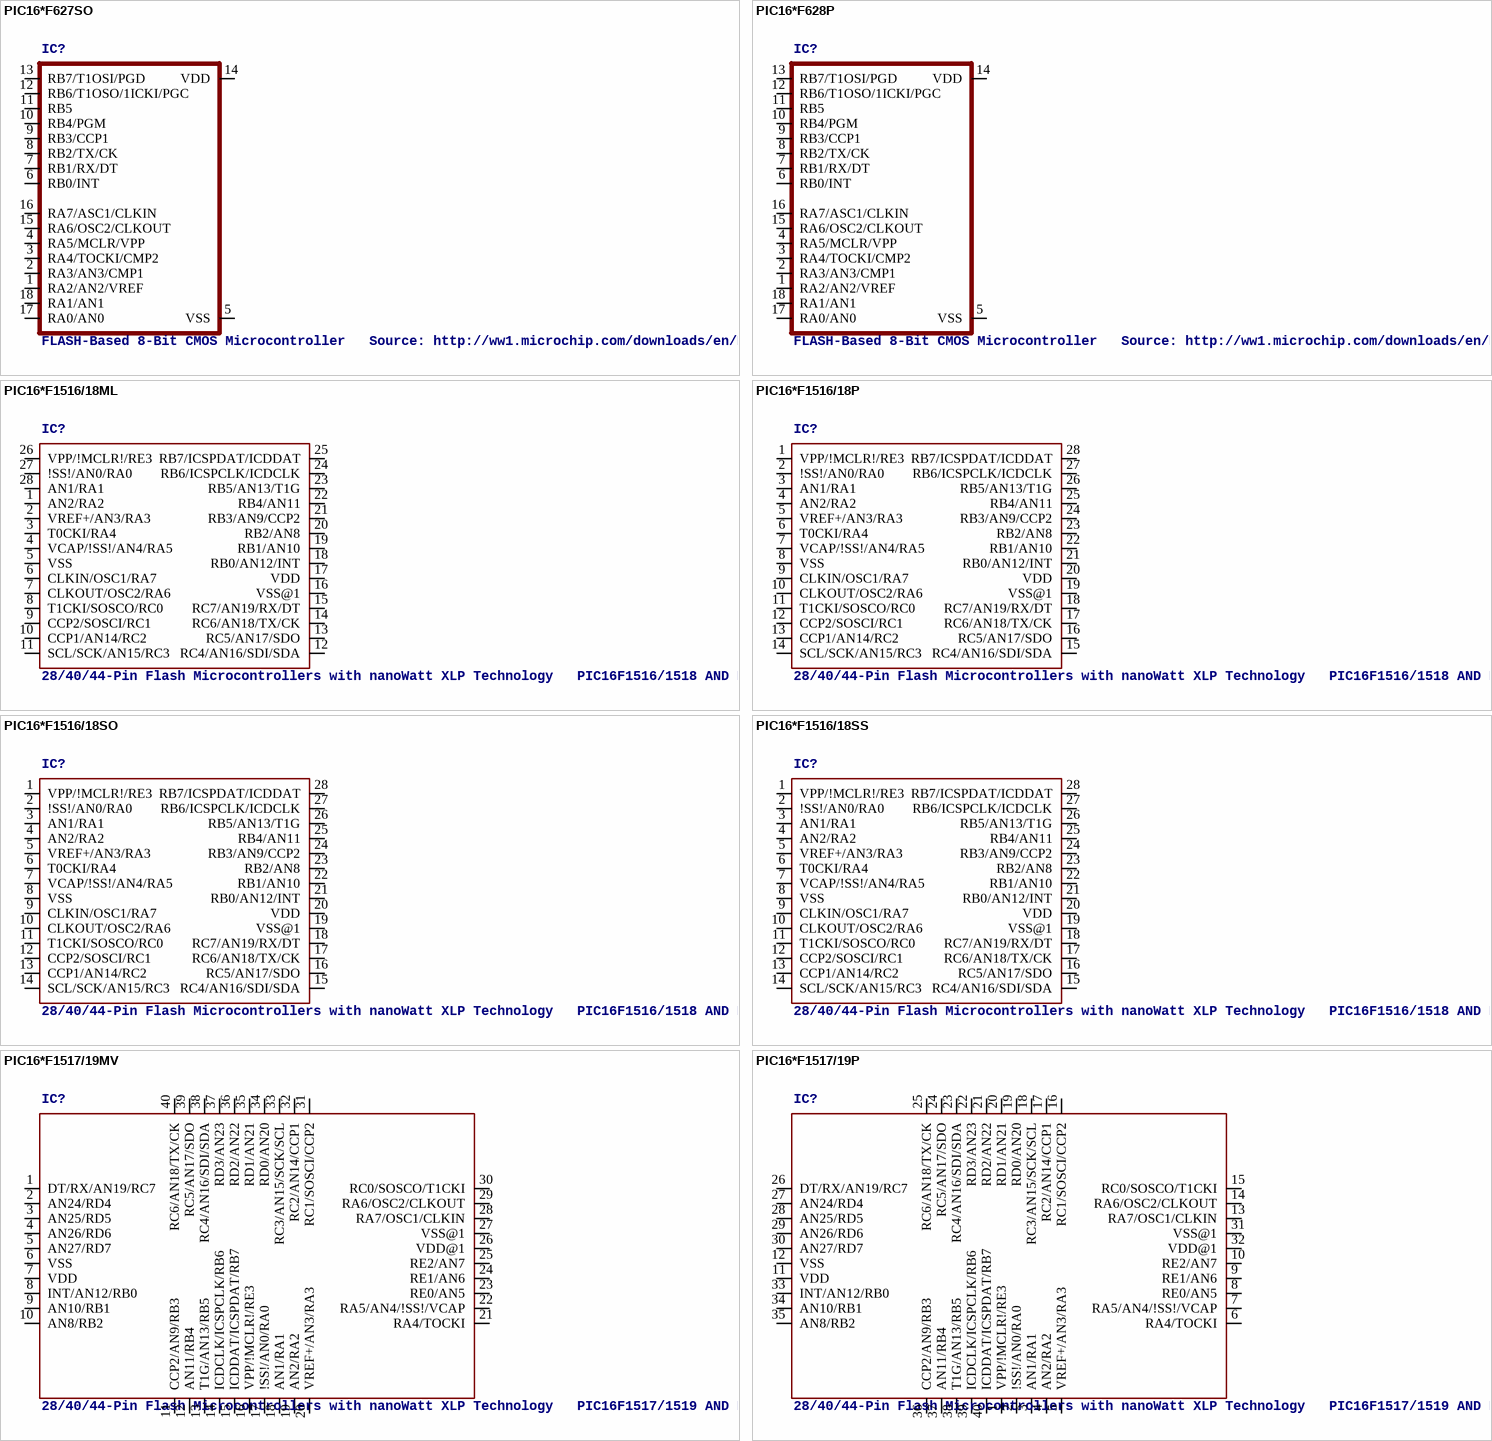
[diagram p12: symbols PIC16*F627SO to PIC16*F1517/19P]

## PIC16*F627SO
designator IC?, comment FLASH-Based 8-Bit CMOS Microcontroller   Source: http://ww1.microchip.com/downloads/en/DeviceDoc/40300C.pdf
MPN: PIC16F627-04/SO; MPN: PIC16LF627A-I/SO; MF: MICROCHIP; OC_FARNELL: 1084265; OC_NEWARK: 69K7632; OC_FARNELL: 1579593; OC_NEWARK: 92C4841
footprint SO-18W
pins: 1 RA2/AN2/VREF, 2 RA3/AN3/CMP1, 3 RA4/TOCKI/CMP2, 4 RA5/MCLR/VPP, 5 VSS (power), 6 RB0/INT, 7 RB1/RX/DT, 8 RB2/TX/CK, 9 RB3/CCP1, 10 RB4/PGM, 11 RB5, 12 RB6/T1OSO/1ICKI/PGC, 13 RB7/T1OSI/PGD, 14 VDD (power), 15 RA6/OSC2/CLKOUT, 16 RA7/ASC1/CLKIN, 17 RA0/AN0, 18 RA1/AN1

## PIC16*F628P
designator IC?, comment FLASH-Based 8-Bit CMOS Microcontroller   Source: http://ww1.microchip.com/downloads/en/DeviceDoc/40300C.pdf
MPN: PIC16F628-20/P; MPN: PIC16LF628-04I/P; MF: MICROCHIP; OC_FARNELL: 9760423; OC_NEWARK: 23C4982; OC_FARNELL: 9761594; OC_NEWARK: 97K7476
footprint DIL18
pins: 1 RA2/AN2/VREF, 2 RA3/AN3/CMP1, 3 RA4/TOCKI/CMP2, 4 RA5/MCLR/VPP, 5 VSS (power), 6 RB0/INT, 7 RB1/RX/DT, 8 RB2/TX/CK, 9 RB3/CCP1, 10 RB4/PGM, 11 RB5, 12 RB6/T1OSO/1ICKI/PGC, 13 RB7/T1OSI/PGD, 14 VDD (power), 15 RA6/OSC2/CLKOUT, 16 RA7/ASC1/CLKIN, 17 RA0/AN0, 18 RA1/AN1

## PIC16*F1516/18ML
designator IC?, comment 28/40/44-Pin Flash Microcontrollers with nanoWatt XLP Technology   PIC16F1516/1518 AND PIC16LF1516/1518 Source: www.microchip.com PIC16F1516.pdf
footprint UQFN28_4X4MM
pins: 1 AN2/RA2, 2 VREF+/AN3/RA3, 3 T0CKI/RA4, 4 VCAP/!SS!/AN4/RA5, 5 VSS (power), 6 CLKIN/OSC1/RA7, 7 CLKOUT/OSC2/RA6, 8 T1CKI/SOSCO/RC0, 9 CCP2/SOSCI/RC1, 10 CCP1/AN14/RC2, 11 SCL/SCK/AN15/RC3, 12 RC4/AN16/SDI/SDA, 13 RC5/AN17/SDO, 14 RC6/AN18/TX/CK, 15 RC7/AN19/RX/DT, 16 VSS@1 (power), 17 VDD (power), 18 RB0/AN12/INT, 19 RB1/AN10, 20 RB2/AN8, 21 RB3/AN9/CCP2, 22 RB4/AN11, 23 RB5/AN13/T1G, 24 RB6/ICSPCLK/ICDCLK, 25 RB7/ICSPDAT/ICDDAT, 26 VPP/!MCLR!/RE3, 27 !SS!/AN0/RA0, 28 AN1/RA1

## PIC16*F1516/18P
designator IC?, comment 28/40/44-Pin Flash Microcontrollers with nanoWatt XLP Technology   PIC16F1516/1518 AND PIC16LF1516/1518 Source: www.microchip.com PIC16F1516.pdf
footprint DIL28-3
pins: 1 VPP/!MCLR!/RE3, 2 !SS!/AN0/RA0, 3 AN1/RA1, 4 AN2/RA2, 5 VREF+/AN3/RA3, 6 T0CKI/RA4, 7 VCAP/!SS!/AN4/RA5, 8 VSS (power), 9 CLKIN/OSC1/RA7, 10 CLKOUT/OSC2/RA6, 11 T1CKI/SOSCO/RC0, 12 CCP2/SOSCI/RC1, 13 CCP1/AN14/RC2, 14 SCL/SCK/AN15/RC3, 15 RC4/AN16/SDI/SDA, 16 RC5/AN17/SDO, 17 RC6/AN18/TX/CK, 18 RC7/AN19/RX/DT, 19 VSS@1 (power), 20 VDD (power), 21 RB0/AN12/INT, 22 RB1/AN10, 23 RB2/AN8, 24 RB3/AN9/CCP2, 25 RB4/AN11, 26 RB5/AN13/T1G, 27 RB6/ICSPCLK/ICDCLK, 28 RB7/ICSPDAT/ICDDAT

## PIC16*F1516/18SO
designator IC?, comment 28/40/44-Pin Flash Microcontrollers with nanoWatt XLP Technology   PIC16F1516/1518 AND PIC16LF1516/1518 Source: www.microchip.com PIC16F1516.pdf
footprint SO28W
pins: 1 VPP/!MCLR!/RE3, 2 !SS!/AN0/RA0, 3 AN1/RA1, 4 AN2/RA2, 5 VREF+/AN3/RA3, 6 T0CKI/RA4, 7 VCAP/!SS!/AN4/RA5, 8 VSS (power), 9 CLKIN/OSC1/RA7, 10 CLKOUT/OSC2/RA6, 11 T1CKI/SOSCO/RC0, 12 CCP2/SOSCI/RC1, 13 CCP1/AN14/RC2, 14 SCL/SCK/AN15/RC3, 15 RC4/AN16/SDI/SDA, 16 RC5/AN17/SDO, 17 RC6/AN18/TX/CK, 18 RC7/AN19/RX/DT, 19 VSS@1 (power), 20 VDD (power), 21 RB0/AN12/INT, 22 RB1/AN10, 23 RB2/AN8, 24 RB3/AN9/CCP2, 25 RB4/AN11, 26 RB5/AN13/T1G, 27 RB6/ICSPCLK/ICDCLK, 28 RB7/ICSPDAT/ICDDAT

## PIC16*F1516/18SS
designator IC?, comment 28/40/44-Pin Flash Microcontrollers with nanoWatt XLP Technology   PIC16F1516/1518 AND PIC16LF1516/1518 Source: www.microchip.com PIC16F1516.pdf
footprint SSOP28
pins: 1 VPP/!MCLR!/RE3, 2 !SS!/AN0/RA0, 3 AN1/RA1, 4 AN2/RA2, 5 VREF+/AN3/RA3, 6 T0CKI/RA4, 7 VCAP/!SS!/AN4/RA5, 8 VSS (power), 9 CLKIN/OSC1/RA7, 10 CLKOUT/OSC2/RA6, 11 T1CKI/SOSCO/RC0, 12 CCP2/SOSCI/RC1, 13 CCP1/AN14/RC2, 14 SCL/SCK/AN15/RC3, 15 RC4/AN16/SDI/SDA, 16 RC5/AN17/SDO, 17 RC6/AN18/TX/CK, 18 RC7/AN19/RX/DT, 19 VSS@1 (power), 20 VDD (power), 21 RB0/AN12/INT, 22 RB1/AN10, 23 RB2/AN8, 24 RB3/AN9/CCP2, 25 RB4/AN11, 26 RB5/AN13/T1G, 27 RB6/ICSPCLK/ICDCLK, 28 RB7/ICSPDAT/ICDDAT

## PIC16*F1517/19MV
designator IC?, comment 28/40/44-Pin Flash Microcontrollers with nanoWatt XLP Technology   PIC16F1517/1519 AND PIC16LF1517/1519 Source: www.microchip.com PIC16F1516.pdf
footprint UQFN40ML5X5MM
pins: 1 DT/RX/AN19/RC7, 2 AN24/RD4, 3 AN25/RD5, 4 AN26/RD6, 5 AN27/RD7, 6 VSS (power), 7 VDD (power), 8 INT/AN12/RB0, 9 AN10/RB1, 10 AN8/RB2, 11 CCP2/AN9/RB3, 12 AN11/RB4, 13 T1G/AN13/RB5, 14 ICDCLK/ICSPCLK/RB6, 15 ICDDAT/ICSPDAT/RB7, 16 VPP/!MCLR!/RE3, 17 !SS!/AN0/RA0, 18 AN1/RA1, 19 AN2/RA2, 20 VREF+/AN3/RA3, 21 RA4/TOCKI, 22 RA5/AN4/!SS!/VCAP, 23 RE0/AN5, 24 RE1/AN6, 25 RE2/AN7, 26 VDD@1 (power), 27 VSS@1 (power), 28 RA7/OSC1/CLKIN, 29 RA6/OSC2/CLKOUT, 30 RC0/SOSCO/T1CKI, 31 RC1/SOSCI/CCP2, 32 RC2/AN14/CCP1, 33 RC3/AN15/SCK/SCL, 34 RD0/AN20, 35 RD1/AN21, 36 RD2/AN22, 37 RD3/AN23, 38 RC4/AN16/SDI/SDA, 39 RC5/AN17/SDO, 40 RC6/AN18/TX/CK

## PIC16*F1517/19P
designator IC?, comment 28/40/44-Pin Flash Microcontrollers with nanoWatt XLP Technology   PIC16F1517/1519 AND PIC16LF1517/1519 Source: www.microchip.com PIC16F1516.pdf
footprint DIL40
pins: 1 VPP/!MCLR!/RE3, 2 !SS!/AN0/RA0, 3 AN1/RA1, 4 AN2/RA2, 5 VREF+/AN3/RA3, 6 RA4/TOCKI, 7 RA5/AN4/!SS!/VCAP, 8 RE0/AN5, 9 RE1/AN6, 10 RE2/AN7, 11 VDD (power), 12 VSS (power), 13 RA7/OSC1/CLKIN, 14 RA6/OSC2/CLKOUT, 15 RC0/SOSCO/T1CKI, 16 RC1/SOSCI/CCP2, 17 RC2/AN14/CCP1, 18 RC3/AN15/SCK/SCL, 19 RD0/AN20, 20 RD1/AN21, 21 RD2/AN22, 22 RD3/AN23, 23 RC4/AN16/SDI/SDA, 24 RC5/AN17/SDO, 25 RC6/AN18/TX/CK, 26 DT/RX/AN19/RC7, 27 AN24/RD4, 28 AN25/RD5, 29 AN26/RD6, 30 AN27/RD7, 31 VSS@1 (power), 32 VDD@1 (power), 33 INT/AN12/RB0, 34 AN10/RB1, 35 AN8/RB2, 36 CCP2/AN9/RB3, 37 AN11/RB4, 38 T1G/AN13/RB5, 39 ICDCLK/ICSPCLK/RB6, 40 ICDDAT/ICSPDAT/RB7

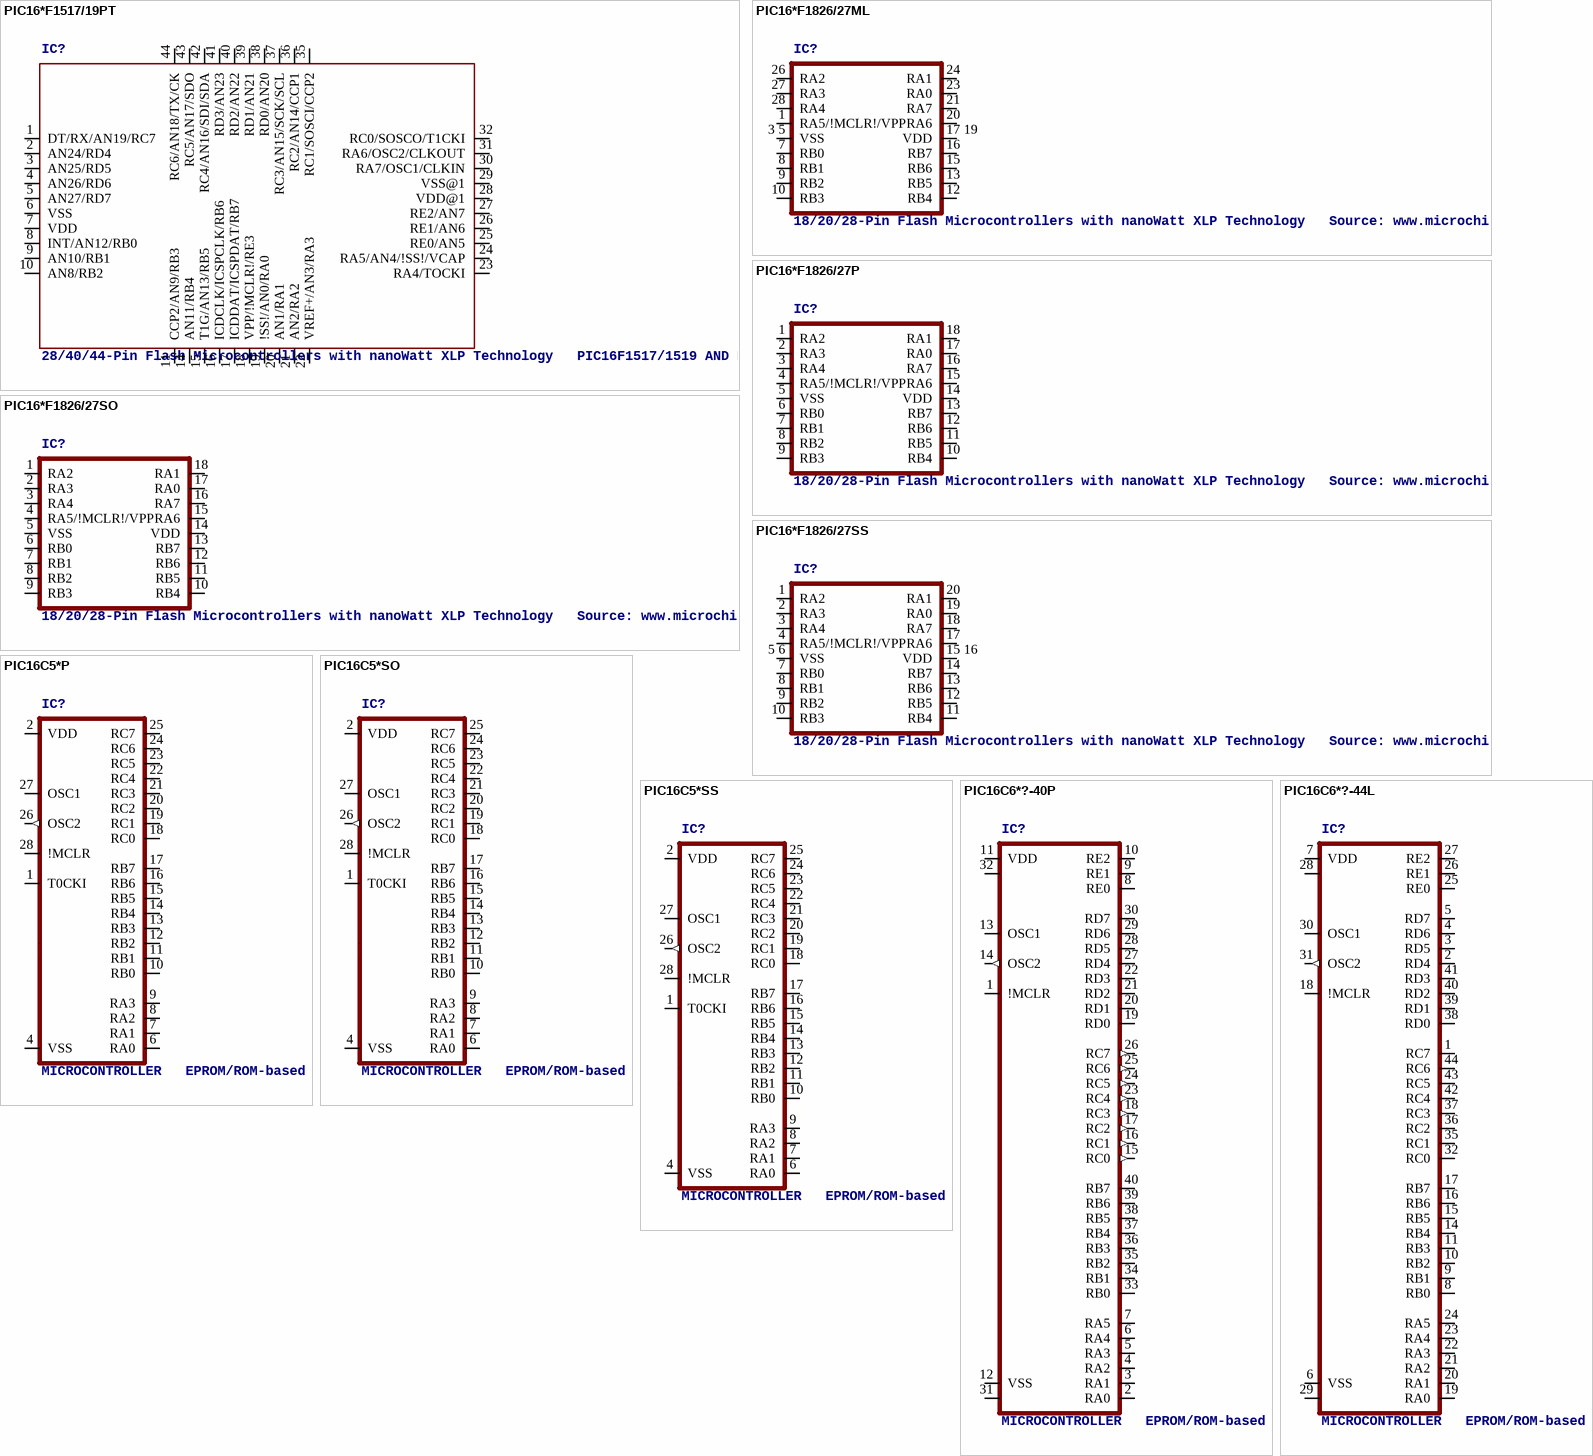
[diagram p13: symbols PIC16*F1517/19PT to PIC16C6*?-44L]

## PIC16*F1517/19PT
designator IC?, comment 28/40/44-Pin Flash Microcontrollers with nanoWatt XLP Technology   PIC16F1517/1519 AND PIC16LF1517/1519 Source: www.microchip.com PIC16F1516.pdf
footprint TQFP44
pins: 1 DT/RX/AN19/RC7, 2 AN24/RD4, 3 AN25/RD5, 4 AN26/RD6, 5 AN27/RD7, 6 VSS (power), 7 VDD (power), 8 INT/AN12/RB0, 9 AN10/RB1, 10 AN8/RB2, 11 CCP2/AN9/RB3, 14 AN11/RB4, 15 T1G/AN13/RB5, 16 ICDCLK/ICSPCLK/RB6, 17 ICDDAT/ICSPDAT/RB7, 18 VPP/!MCLR!/RE3, 19 !SS!/AN0/RA0, 20 AN1/RA1, 21 AN2/RA2, 22 VREF+/AN3/RA3, 23 RA4/TOCKI, 24 RA5/AN4/!SS!/VCAP, 25 RE0/AN5, 26 RE1/AN6, 27 RE2/AN7, 28 VDD@1 (power), 29 VSS@1 (power), 30 RA7/OSC1/CLKIN, 31 RA6/OSC2/CLKOUT, 32 RC0/SOSCO/T1CKI, 35 RC1/SOSCI/CCP2, 36 RC2/AN14/CCP1, 37 RC3/AN15/SCK/SCL, 38 RD0/AN20, 39 RD1/AN21, 40 RD2/AN22, 41 RD3/AN23, 42 RC4/AN16/SDI/SDA, 43 RC5/AN17/SDO, 44 RC6/AN18/TX/CK

## PIC16*F1826/27ML
designator IC?, comment 18/20/28-Pin Flash Microcontrollers with nanoWatt XLP Technology   Source: www.microchip.com PIC16F1827.pdf
footprint QFN28
pins: 1 RA5/!MCLR!/VPP, 3 5 VSS (power), 7 RB0, 8 RB1, 9 RB2, 10 RB3, 12 RB4, 13 RB5, 15 RB6, 16 RB7, 17 19 VDD (power), 20 RA6, 21 RA7, 23 RA0, 24 RA1, 26 RA2, 27 RA3, 28 RA4

## PIC16*F1826/27P
designator IC?, comment 18/20/28-Pin Flash Microcontrollers with nanoWatt XLP Technology   Source: www.microchip.com PIC16F1827.pdf
footprint DIL18
pins: 1 RA2, 2 RA3, 3 RA4, 4 RA5/!MCLR!/VPP, 5 VSS (power), 6 RB0, 7 RB1, 8 RB2, 9 RB3, 10 RB4, 11 RB5, 12 RB6, 13 RB7, 14 VDD (power), 15 RA6, 16 RA7, 17 RA0, 18 RA1

## PIC16*F1826/27SO
designator IC?, comment 18/20/28-Pin Flash Microcontrollers with nanoWatt XLP Technology   Source: www.microchip.com PIC16F1827.pdf
footprint SO-18W
pins: 1 RA2, 2 RA3, 3 RA4, 4 RA5/!MCLR!/VPP, 5 VSS (power), 6 RB0, 7 RB1, 8 RB2, 9 RB3, 10 RB4, 11 RB5, 12 RB6, 13 RB7, 14 VDD (power), 15 RA6, 16 RA7, 17 RA0, 18 RA1

## PIC16*F1826/27SS
designator IC?, comment 18/20/28-Pin Flash Microcontrollers with nanoWatt XLP Technology   Source: www.microchip.com PIC16F1827.pdf
footprint SSOP20
pins: 1 RA2, 2 RA3, 3 RA4, 4 RA5/!MCLR!/VPP, 5 6 VSS (power), 7 RB0, 8 RB1, 9 RB2, 10 RB3, 11 RB4, 12 RB5, 13 RB6, 14 RB7, 15 16 VDD (power), 17 RA6, 18 RA7, 19 RA0, 20 RA1

## PIC16C5*P
designator IC?, comment MICROCONTROLLER   EPROM/ROM-based
MPN: PIC16C55-LPI/P; MPN: PIC16C57-HS/P; MF: MICROCHIP; OC_FARNELL: 9759271; OC_NEWARK: 23C3344; OC_FARNELL: 1523927; OC_NEWARK: 61K3440; OC_FARNELL: 1084260
footprint DIL28-6
pins: 1 T0CKI, 2 VDD (power), 3 NC, 4 VSS (power), 5 NC@1, 6 RA0, 7 RA1, 8 RA2, 9 RA3, 10 RB0, 11 RB1, 12 RB2, 13 RB3, 14 RB4, 15 RB5, 16 RB6, 17 RB7, 18 RC0, 19 RC1, 20 RC2, 21 RC3, 22 RC4, 23 RC5, 24 RC6, 25 RC7, 26 OSC2 (out), 27 OSC1, 28 !MCLR

## PIC16C5*SO
designator IC?, comment MICROCONTROLLER   EPROM/ROM-based
MPN: PIC16C55A-04/SO; MPN: PIC16C57-HS/SO; MPN: PIC16C57-XTI/P; MF: MICROCHIP; OC_FARNELL: 9759280; OC_NEWARK: 96K3793; OC_FARNELL: 9759395; OC_NEWARK: 23C3614; OC_NEWARK: 88K1971
footprint SO28W
pins: 1 T0CKI, 2 VDD (power), 3 NC, 4 VSS (power), 5 NC@1, 6 RA0, 7 RA1, 8 RA2, 9 RA3, 10 RB0, 11 RB1, 12 RB2, 13 RB3, 14 RB4, 15 RB5, 16 RB6, 17 RB7, 18 RC0, 19 RC1, 20 RC2, 21 RC3, 22 RC4, 23 RC5, 24 RC6, 25 RC7, 26 OSC2 (out), 27 OSC1, 28 !MCLR

## PIC16C5*SS
designator IC?, comment MICROCONTROLLER   EPROM/ROM-based
MPN: PIC16C55A-20E/SS; MPN: PIC16C57C-04I/SS; MF: MICROCHIP; OC_FARNELL: unknown; OC_NEWARK: 23C3402; OC_NEWARK: 23C3683
footprint SSOP28
pins: 1 T0CKI, 2 VDD (power), 3 NC, 4 VSS (power), 5 NC@1, 6 RA0, 7 RA1, 8 RA2, 9 RA3, 10 RB0, 11 RB1, 12 RB2, 13 RB3, 14 RB4, 15 RB5, 16 RB6, 17 RB7, 18 RC0, 19 RC1, 20 RC2, 21 RC3, 22 RC4, 23 RC5, 24 RC6, 25 RC7, 26 OSC2 (out), 27 OSC1, 28 !MCLR

## PIC16C6*?-40P
designator IC?, comment MICROCONTROLLER   EPROM/ROM-based
MPN: PIC16C64A-04I/P; MPN: PIC16C65B-04/P; MF: MICROCHIP; OC_FARNELL: 1084225; OC_NEWARK: 24M5871; OC_FARNELL: 9759670; OC_NEWARK: 23C4232
footprint DIL40
pins: 1 !MCLR, 2 RA0, 3 RA1, 4 RA2, 5 RA3, 6 RA4, 7 RA5, 8 RE0, 9 RE1, 10 RE2, 11 VDD (power), 12 VSS (power), 13 OSC1, 14 OSC2 (out), 15 RC0 (out), 16 RC1 (out), 17 RC2 (out), 18 RC3 (out), 19 RD0, 20 RD1, 21 RD2, 22 RD3, 23 RC4 (out), 24 RC5 (out), 25 RC6 (out), 26 RC7 (out), 27 RD4, 28 RD5, 29 RD6, 30 RD7, 31 VSS@1 (power), 32 VDD@1 (power), 33 RB0, 34 RB1, 35 RB2, 36 RB3, 37 RB4, 38 RB5, 39 RB6, 40 RB7

## PIC16C6*?-44L
designator IC?, comment MICROCONTROLLER   EPROM/ROM-based
MPN: PIC16C64A-04/L; MPN: PIC16C65A-04/L; MF: MICROCHIP; OC_FARNELL: 9759646; OC_NEWARK: 96K3813; OC_FARNELL: 9759700; OC_NEWARK: 97K7248
footprint PLCC-44
pins: 1 RC7, 2 RD4, 3 RD5, 4 RD6, 5 RD7, 6 VSS (power), 7 VDD (power), 8 RB0, 9 RB1, 10 RB2, 11 RB3, 12 NC, 13 NC@1, 14 RB4, 15 RB5, 16 RB6, 17 RB7, 18 !MCLR, 19 RA0, 20 RA1, 21 RA2, 22 RA3, 23 RA4, 24 RA5, 25 RE0, 26 RE1, 27 RE2, 28 VDD@1 (power), 29 VSS@1 (power), 30 OSC1, 31 OSC2 (out), 32 RC0, 33 NC@2, 34 NC@3, 35 RC1, 36 RC2, 37 RC3, 38 RD0, 39 RD1, 40 RD2, 41 RD3, 42 RC4, 43 RC5, 44 RC6

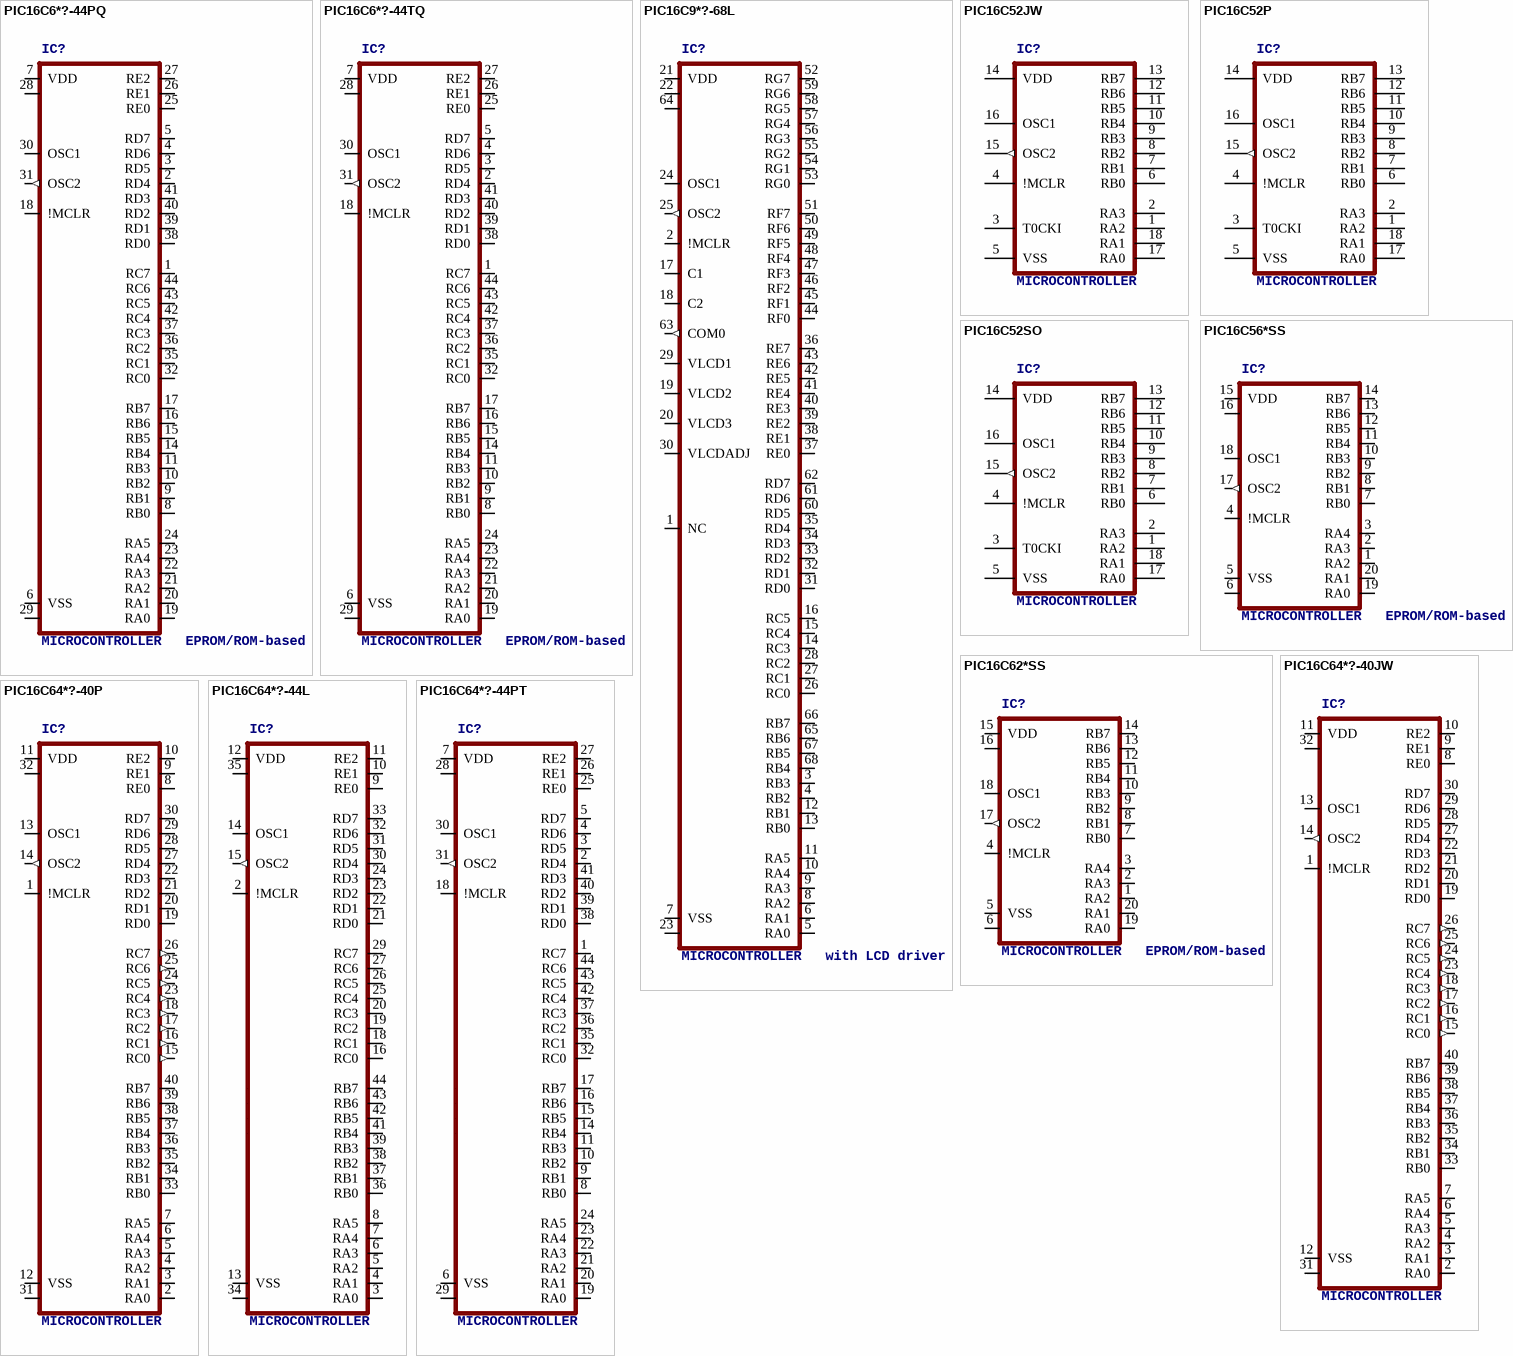
[diagram p14: symbols PIC16C6*?-44PQ to PIC16C64*?-44PT]

## PIC16C6*?-44PQ
designator IC?, comment MICROCONTROLLER   EPROM/ROM-based
MPN: PIC16C64A-10I/PT; MF: MICROCHIP; OC_FARNELL: unknown; OC_NEWARK: 23C4098; OC_NEWARK: unknown
footprint MQFP44-2
pins: 1 RC7, 2 RD4, 3 RD5, 4 RD6, 5 RD7, 6 VSS (power), 7 VDD (power), 8 RB0, 9 RB1, 10 RB2, 11 RB3, 12 NC, 13 NC@1, 14 RB4, 15 RB5, 16 RB6, 17 RB7, 18 !MCLR, 19 RA0, 20 RA1, 21 RA2, 22 RA3, 23 RA4, 24 RA5, 25 RE0, 26 RE1, 27 RE2, 28 VDD@1 (power), 29 VSS@1 (power), 30 OSC1, 31 OSC2 (out), 32 RC0, 33 NC@2, 34 NC@3, 35 RC1, 36 RC2, 37 RC3, 38 RD0, 39 RD1, 40 RD2, 41 RD3, 42 RC4, 43 RC5, 44 RC6

## PIC16C6*?-44TQ
designator IC?, comment MICROCONTROLLER   EPROM/ROM-based
MPN: PIC16C64A-10I/PT; MF: MICROCHIP; OC_FARNELL: unknown; OC_NEWARK: 23C4098
footprint TQFP44
pins: 1 RC7, 2 RD4, 3 RD5, 4 RD6, 5 RD7, 6 VSS (power), 7 VDD (power), 8 RB0, 9 RB1, 10 RB2, 11 RB3, 12 NC, 13 NC@1, 14 RB4, 15 RB5, 16 RB6, 17 RB7, 18 !MCLR, 19 RA0, 20 RA1, 21 RA2, 22 RA3, 23 RA4, 24 RA5, 25 RE0, 26 RE1, 27 RE2, 28 VDD@1 (power), 29 VSS@1 (power), 30 OSC1, 31 OSC2 (out), 32 RC0, 33 NC@2, 34 NC@3, 35 RC1, 36 RC2, 37 RC3, 38 RD0, 39 RD1, 40 RD2, 41 RD3, 42 RC4, 43 RC5, 44 RC6

## PIC16C9*?-68L
designator IC?, comment MICROCONTROLLER   with LCD driver
MPN: PIC16C923-04/L; MPN: PIC16C924-08I/L; MF: MICROCHIP; OC_FARNELL: 1196843; OC_NEWARK: 23C4927; OC_FARNELL: unknown; OC_NEWARK: 23C4949
footprint PLCC-68
pins: 1 NC, 2 !MCLR, 3 RB3, 4 RB2, 5 RA0, 6 RA1, 7 VSS (power), 8 RA2, 9 RA3, 10 RA4, 11 RA5, 12 RB1, 13 RB0, 14 RC3, 15 RC4, 16 RC5, 17 C1, 18 C2, 19 VLCD2, 20 VLCD3, 21 VDD (power), 22 VDD@1 (power), 23 VSS@1 (power), 24 OSC1, 25 OSC2 (out), 26 RC0, 27 RC1, 28 RC2, 29 VLCD1, 30 VLCDADJ, 31 RD0, 32 RD1, 33 RD2, 34 RD3, 35 RD4, 36 RE7, 37 RE0, 38 RE1, 39 RE2, 40 RE3, 41 RE4, 42 RE5, 43 RE6, 44 RF0, 45 RF1, 46 RF2, 47 RF3, 48 RF4, 49 RF5, 50 RF6, 51 RF7, 52 RG7, 53 RG0, 54 RG1, 55 RG2, 56 RG3, 57 RG4, 58 RG5, 59 RG6, 60 RD5, 61 RD6, 62 RD7, 63 COM0 (out), 64 VDD@2 (power), 65 RB6, 66 RB7, 67 RB5, 68 RB4

## PIC16C52JW
designator IC?, comment MICROCONTROLLER
OC_FARNELL: unknown; OC_NEWARK: unknown
footprint DIL18
pins: 1 RA2, 2 RA3, 3 T0CKI, 4 !MCLR, 5 VSS (power), 6 RB0, 7 RB1, 8 RB2, 9 RB3, 10 RB4, 11 RB5, 12 RB6, 13 RB7, 14 VDD (power), 15 OSC2 (out), 16 OSC1, 17 RA0, 18 RA1

## PIC16C52P
designator IC?, comment MICROCONTROLLER
OC_FARNELL: unknown; OC_NEWARK: unknown
footprint DIL18
pins: 1 RA2, 2 RA3, 3 T0CKI, 4 !MCLR, 5 VSS (power), 6 RB0, 7 RB1, 8 RB2, 9 RB3, 10 RB4, 11 RB5, 12 RB6, 13 RB7, 14 VDD (power), 15 OSC2 (out), 16 OSC1, 17 RA0, 18 RA1

## PIC16C52SO
designator IC?, comment MICROCONTROLLER
OC_FARNELL: unknown; OC_NEWARK: unknown
footprint SO-18W
pins: 1 RA2, 2 RA3, 3 T0CKI, 4 !MCLR, 5 VSS (power), 6 RB0, 7 RB1, 8 RB2, 9 RB3, 10 RB4, 11 RB5, 12 RB6, 13 RB7, 14 VDD (power), 15 OSC2 (out), 16 OSC1, 17 RA0, 18 RA1

## PIC16C56*SS
designator IC?, comment MICROCONTROLLER   EPROM/ROM-based
MPN: PIC16C56A-04/SS; MF: MICROCHIP; OC_FARNELL: 116506; OC_NEWARK: 23C3557
footprint SSOP20
pins: 1 RA2, 2 RA3, 3 RA4, 4 !MCLR, 5 VSS (power), 6 VSS@1 (power), 7 RB0, 8 RB1, 9 RB2, 10 RB3, 11 RB4, 12 RB5, 13 RB6, 14 RB7, 15 VDD (power), 16 VDD@1 (power), 17 OSC2 (out), 18 OSC1, 19 RA0, 20 RA1

## PIC16C62*SS
designator IC?, comment MICROCONTROLLER   EPROM/ROM-based
MPN: PIC16C620A-40/SS; MPN: PIC16C621-20I/SS; MPN: PIC16C622A-04/SS; MF: MICROCHIP; OC_FARNELL: unknown; OC_NEWARK: 92C4421; OC_NEWARK: 23C3915; OC_NEWARK: 23C3980
footprint SSOP20
pins: 1 RA2, 2 RA3, 3 RA4, 4 !MCLR, 5 VSS (power), 6 VSS@1 (power), 7 RB0, 8 RB1, 9 RB2, 10 RB3, 11 RB4, 12 RB5, 13 RB6, 14 RB7, 15 VDD (power), 16 VDD@1 (power), 17 OSC2 (out), 18 OSC1, 19 RA0, 20 RA1

## PIC16C64*?-40JW
designator IC?, comment MICROCONTROLLER
MPN: PIC16C64A/JW; MPN: PIC16C64A-04/P; MF: MICROCHIP; OC_FARNELL: 1084225; OC_NEWARK: 96K3814; OC_NEWARK: 23C4077
footprint DIL40
pins: 1 !MCLR, 2 RA0, 3 RA1, 4 RA2, 5 RA3, 6 RA4, 7 RA5, 8 RE0, 9 RE1, 10 RE2, 11 VDD (power), 12 VSS (power), 13 OSC1, 14 OSC2 (out), 15 RC0 (out), 16 RC1 (out), 17 RC2 (out), 18 RC3 (out), 19 RD0, 20 RD1, 21 RD2, 22 RD3, 23 RC4 (out), 24 RC5 (out), 25 RC6 (out), 26 RC7 (out), 27 RD4, 28 RD5, 29 RD6, 30 RD7, 31 VSS@1 (power), 32 VDD@1 (power), 33 RB0, 34 RB1, 35 RB2, 36 RB3, 37 RB4, 38 RB5, 39 RB6, 40 RB7

## PIC16C64*?-40P
designator IC?, comment MICROCONTROLLER
MPN: PIC16C64A-04/P; MF: MICROCHIP; OC_FARNELL: 1084225; OC_NEWARK: 23C4077
footprint DIL40
pins: 1 !MCLR, 2 RA0, 3 RA1, 4 RA2, 5 RA3, 6 RA4, 7 RA5, 8 RE0, 9 RE1, 10 RE2, 11 VDD (power), 12 VSS (power), 13 OSC1, 14 OSC2 (out), 15 RC0 (out), 16 RC1 (out), 17 RC2 (out), 18 RC3 (out), 19 RD0, 20 RD1, 21 RD2, 22 RD3, 23 RC4 (out), 24 RC5 (out), 25 RC6 (out), 26 RC7 (out), 27 RD4, 28 RD5, 29 RD6, 30 RD7, 31 VSS@1 (power), 32 VDD@1 (power), 33 RB0, 34 RB1, 35 RB2, 36 RB3, 37 RB4, 38 RB5, 39 RB6, 40 RB7

## PIC16C64*?-44L
designator IC?, comment MICROCONTROLLER
MPN: PIC16C64A-20/L; MF: MICROCHIP; OC_FARNELL: 9759646; OC_NEWARK: 23C4099
footprint PLCC-44
pins: 1 NC, 2 !MCLR, 3 RA0, 4 RA1, 5 RA2, 6 RA3, 7 RA4, 8 RA5, 9 RE0, 10 RE1, 11 RE2, 12 VDD (power), 13 VSS (power), 14 OSC1, 15 OSC2 (out), 16 RC0, 17 NC@1, 18 RC1, 19 RC2, 20 RC3, 21 RD0, 22 RD1, 23 RD2, 24 RD3, 25 RC4, 26 RC5, 27 RC6, 28 NC@2, 29 RC7, 30 RD4, 31 RD5, 32 RD6, 33 RD7, 34 VSS@1 (power), 35 VDD@1 (power), 36 RB0, 37 RB1, 38 RB2, 39 RB3, 40 NC@3, 41 RB4, 42 RB5, 43 RB6, 44 RB7

## PIC16C64*?-44PT
designator IC?, comment MICROCONTROLLER
OC_FARNELL: unknown; OC_NEWARK: unknown
footprint TQFP44
pins: 1 RC7, 2 RD4, 3 RD5, 4 RD6, 5 RD7, 6 VSS (power), 7 VDD (power), 8 RB0, 9 RB1, 10 RB2, 11 RB3, 12 NC, 13 NC@1, 14 RB4, 15 RB5, 16 RB6, 17 RB7, 18 !MCLR, 19 RA0, 20 RA1, 21 RA2, 22 RA3, 23 RA4, 24 RA5, 25 RE0, 26 RE1, 27 RE2, 28 VDD@1 (power), 29 VSS@1 (power), 30 OSC1, 31 OSC2 (out), 32 RC0, 33 NC@2, 34 NC@3, 35 RC1, 36 RC2, 37 RC3, 38 RD0, 39 RD1, 40 RD2, 41 RD3, 42 RC4, 43 RC5, 44 RC6

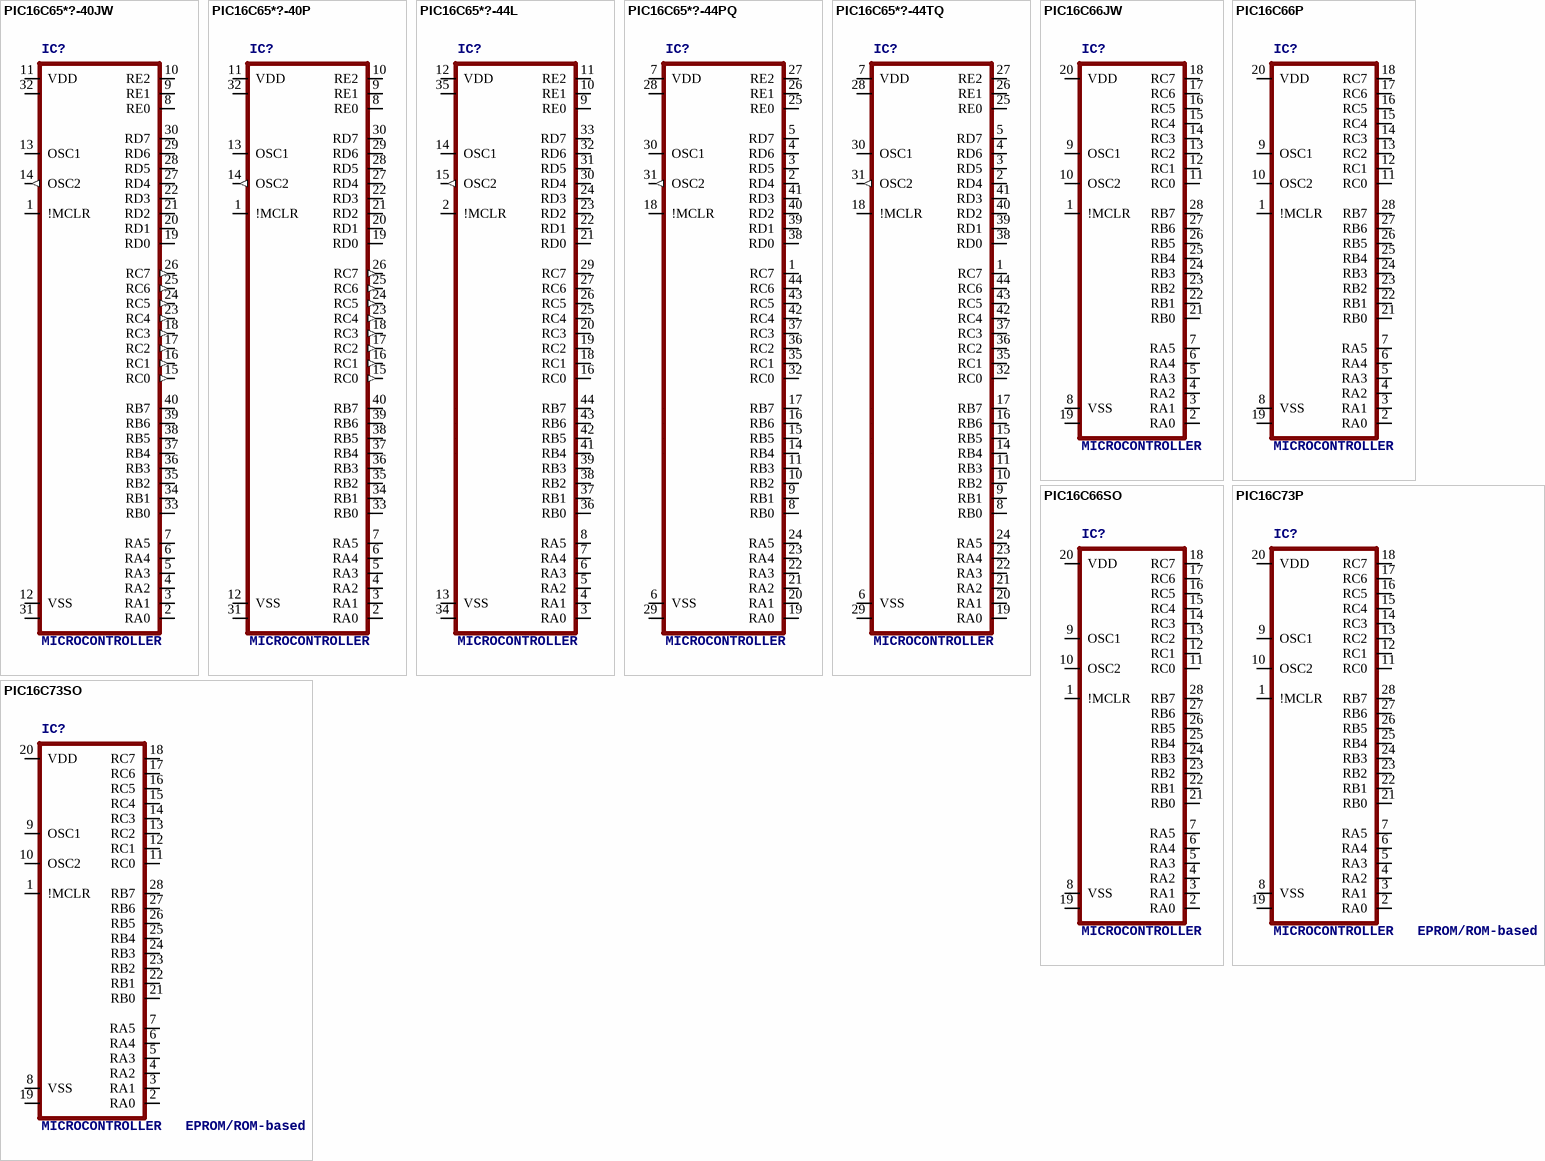
[diagram p15: symbols PIC16C65*?-40JW to PIC16C73SO]

## PIC16C65*?-40JW
designator IC?, comment MICROCONTROLLER
MPN: PIC16C65A-04/P; MPN: PIC16C65B/JW; MF: MICROCHIP; OC_FARNELL: unknown; OC_NEWARK: 97K7249; OC_FARNELL: 9759670; OC_FARNELL: 9759719; OC_NEWARK: 96K3817
footprint DIL40
pins: 1 !MCLR, 2 RA0, 3 RA1, 4 RA2, 5 RA3, 6 RA4, 7 RA5, 8 RE0, 9 RE1, 10 RE2, 11 VDD (power), 12 VSS (power), 13 OSC1, 14 OSC2 (out), 15 RC0 (out), 16 RC1 (out), 17 RC2 (out), 18 RC3 (out), 19 RD0, 20 RD1, 21 RD2, 22 RD3, 23 RC4 (out), 24 RC5 (out), 25 RC6 (out), 26 RC7 (out), 27 RD4, 28 RD5, 29 RD6, 30 RD7, 31 VSS@1 (power), 32 VDD@1 (power), 33 RB0, 34 RB1, 35 RB2, 36 RB3, 37 RB4, 38 RB5, 39 RB6, 40 RB7

## PIC16C65*?-40P
designator IC?, comment MICROCONTROLLER
MPN: PIC16C65B-20/P; MPN: PIC16C65A-04/P; MPN: PIC16C65B-04/P; MF: MICROCHIP; OC_FARNELL: 9759670; OC_NEWARK: 12C1910; OC_NEWARK: 97K7249; OC_FARNELL: 9759719; OC_NEWARK: 23C4232
footprint DIL40
pins: 1 !MCLR, 2 RA0, 3 RA1, 4 RA2, 5 RA3, 6 RA4, 7 RA5, 8 RE0, 9 RE1, 10 RE2, 11 VDD (power), 12 VSS (power), 13 OSC1, 14 OSC2 (out), 15 RC0 (out), 16 RC1 (out), 17 RC2 (out), 18 RC3 (out), 19 RD0, 20 RD1, 21 RD2, 22 RD3, 23 RC4 (out), 24 RC5 (out), 25 RC6 (out), 26 RC7 (out), 27 RD4, 28 RD5, 29 RD6, 30 RD7, 31 VSS@1 (power), 32 VDD@1 (power), 33 RB0, 34 RB1, 35 RB2, 36 RB3, 37 RB4, 38 RB5, 39 RB6, 40 RB7

## PIC16C65*?-44L
designator IC?, comment MICROCONTROLLER
MPN: PIC16C65A-04/L; MPN: PIC16C65B-20/L; MF: MICROCHIP; OC_FARNELL: 9759700; OC_NEWARK: 97K7248; OC_FARNELL: 9759662; OC_FARNELL: 9759689; OC_NEWARK: 96K3816
footprint PLCC-44
pins: 1 NC, 2 !MCLR, 3 RA0, 4 RA1, 5 RA2, 6 RA3, 7 RA4, 8 RA5, 9 RE0, 10 RE1, 11 RE2, 12 VDD (power), 13 VSS (power), 14 OSC1, 15 OSC2 (out), 16 RC0, 17 NC@1, 18 RC1, 19 RC2, 20 RC3, 21 RD0, 22 RD1, 23 RD2, 24 RD3, 25 RC4, 26 RC5, 27 RC6, 28 NC@2, 29 RC7, 30 RD4, 31 RD5, 32 RD6, 33 RD7, 34 VSS@1 (power), 35 VDD@1 (power), 36 RB0, 37 RB1, 38 RB2, 39 RB3, 40 NC@3, 41 RB4, 42 RB5, 43 RB6, 44 RB7

## PIC16C65*?-44PQ
designator IC?, comment MICROCONTROLLER
OC_FARNELL: unknown; OC_NEWARK: unknown
footprint MQFP44-2
pins: 1 RC7, 2 RD4, 3 RD5, 4 RD6, 5 RD7, 6 VSS (power), 7 VDD (power), 8 RB0, 9 RB1, 10 RB2, 11 RB3, 12 NC, 13 NC@1, 14 RB4, 15 RB5, 16 RB6, 17 RB7, 18 !MCLR, 19 RA0, 20 RA1, 21 RA2, 22 RA3, 23 RA4, 24 RA5, 25 RE0, 26 RE1, 27 RE2, 28 VDD@1 (power), 29 VSS@1 (power), 30 OSC1, 31 OSC2 (out), 32 RC0, 33 NC@2, 34 NC@3, 35 RC1, 36 RC2, 37 RC3, 38 RD0, 39 RD1, 40 RD2, 41 RD3, 42 RC4, 43 RC5, 44 RC6

## PIC16C65*?-44TQ
designator IC?, comment MICROCONTROLLER
MPN: PIC16C65B-20/PT; MF: MICROCHIP; OC_FARNELL: unknown; OC_NEWARK: unknown; OC_NEWARK: 23C4244
footprint TQFP44
pins: 1 RC7, 2 RD4, 3 RD5, 4 RD6, 5 RD7, 6 VSS (power), 7 VDD (power), 8 RB0, 9 RB1, 10 RB2, 11 RB3, 12 NC, 13 NC@1, 14 RB4, 15 RB5, 16 RB6, 17 RB7, 18 !MCLR, 19 RA0, 20 RA1, 21 RA2, 22 RA3, 23 RA4, 24 RA5, 25 RE0, 26 RE1, 27 RE2, 28 VDD@1 (power), 29 VSS@1 (power), 30 OSC1, 31 OSC2 (out), 32 RC0, 33 NC@2, 34 NC@3, 35 RC1, 36 RC2, 37 RC3, 38 RD0, 39 RD1, 40 RD2, 41 RD3, 42 RC4, 43 RC5, 44 RC6

## PIC16C66JW
designator IC?, comment MICROCONTROLLER
MPN: PIC16C66/JW; MF: MICROCHIP; OC_FARNELL: 685999; OC_NEWARK: 96K3820
footprint DIL28-6
pins: 1 !MCLR, 2 RA0, 3 RA1, 4 RA2, 5 RA3, 6 RA4, 7 RA5, 8 VSS (power), 9 OSC1, 10 OSC2, 11 RC0, 12 RC1, 13 RC2, 14 RC3, 15 RC4, 16 RC5, 17 RC6, 18 RC7, 19 VSS@1 (power), 20 VDD (power), 21 RB0, 22 RB1, 23 RB2, 24 RB3, 25 RB4, 26 RB5, 27 RB6, 28 RB7

## PIC16C66P
designator IC?, comment MICROCONTROLLER
MPN: PIC16C66-04I/SP; MF: MICROCHIP; OC_FARNELL: 9759735; OC_NEWARK: 23C4276
footprint DIL28-3
pins: 1 !MCLR, 2 RA0, 3 RA1, 4 RA2, 5 RA3, 6 RA4, 7 RA5, 8 VSS (power), 9 OSC1, 10 OSC2, 11 RC0, 12 RC1, 13 RC2, 14 RC3, 15 RC4, 16 RC5, 17 RC6, 18 RC7, 19 VSS@1 (power), 20 VDD (power), 21 RB0, 22 RB1, 23 RB2, 24 RB3, 25 RB4, 26 RB5, 27 RB6, 28 RB7

## PIC16C66SO
designator IC?, comment MICROCONTROLLER
MPN: PIC16C66-10/SO; OC_FARNELL: 9759727; OC_NEWARK: 97K7254
footprint SO28W
pins: 1 !MCLR, 2 RA0, 3 RA1, 4 RA2, 5 RA3, 6 RA4, 7 RA5, 8 VSS (power), 9 OSC1, 10 OSC2, 11 RC0, 12 RC1, 13 RC2, 14 RC3, 15 RC4, 16 RC5, 17 RC6, 18 RC7, 19 VSS@1 (power), 20 VDD (power), 21 RB0, 22 RB1, 23 RB2, 24 RB3, 25 RB4, 26 RB5, 27 RB6, 28 RB7

## PIC16C73P
designator IC?, comment MICROCONTROLLER   EPROM/ROM-based
MPN: PIC16C73B-04I/SP; MF: MICROCHIP; OC_FARNELL: 9759980; OC_NEWARK: 96K3842
footprint DIL28-3
pins: 1 !MCLR, 2 RA0, 3 RA1, 4 RA2, 5 RA3, 6 RA4, 7 RA5, 8 VSS (power), 9 OSC1, 10 OSC2, 11 RC0, 12 RC1, 13 RC2, 14 RC3, 15 RC4, 16 RC5, 17 RC6, 18 RC7, 19 VSS@1 (power), 20 VDD (power), 21 RB0, 22 RB1, 23 RB2, 24 RB3, 25 RB4, 26 RB5, 27 RB6, 28 RB7

## PIC16C73SO
designator IC?, comment MICROCONTROLLER   EPROM/ROM-based
MPN: PIC16C73B-20/SO; MF: MICROCHIP; OC_FARNELL: 9759999; OC_NEWARK: 12C1926
footprint SO28W
pins: 1 !MCLR, 2 RA0, 3 RA1, 4 RA2, 5 RA3, 6 RA4, 7 RA5, 8 VSS (power), 9 OSC1, 10 OSC2, 11 RC0, 12 RC1, 13 RC2, 14 RC3, 15 RC4, 16 RC5, 17 RC6, 18 RC7, 19 VSS@1 (power), 20 VDD (power), 21 RB0, 22 RB1, 23 RB2, 24 RB3, 25 RB4, 26 RB5, 27 RB6, 28 RB7

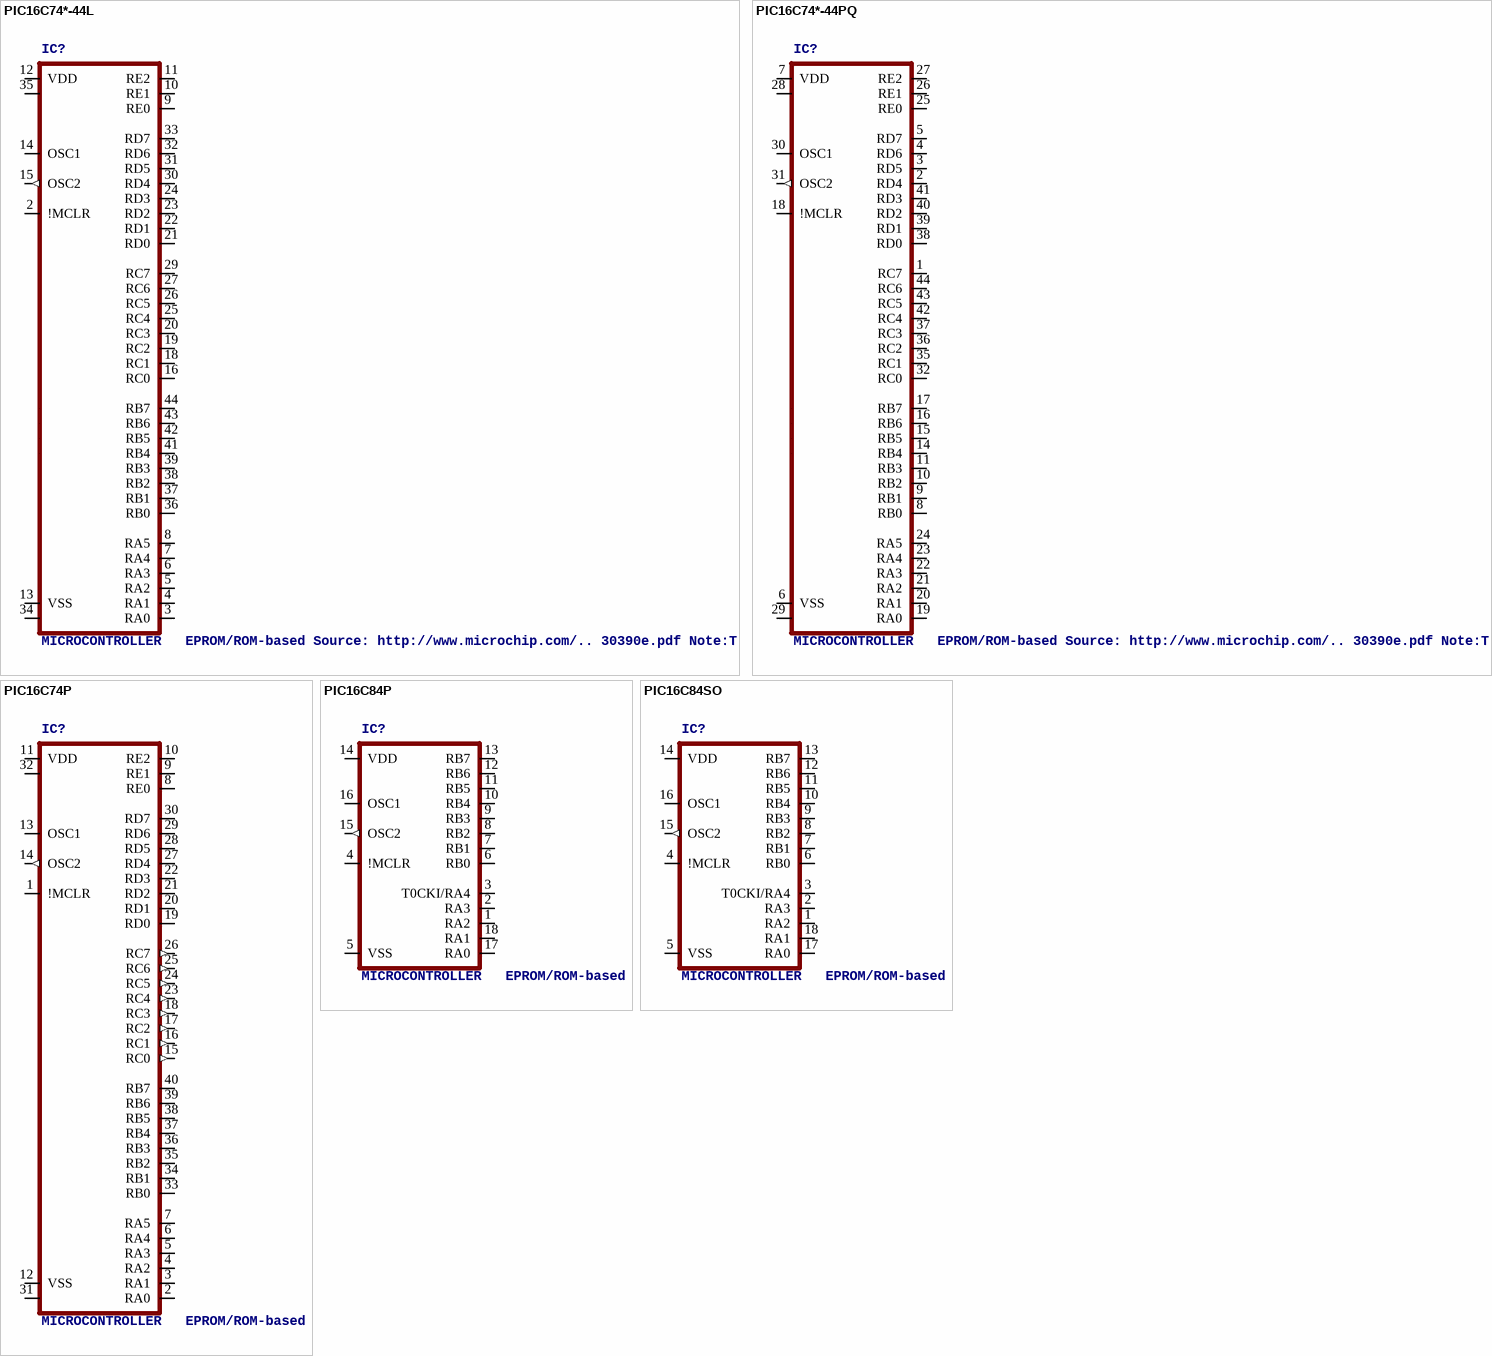
[diagram p16: symbols PIC16C74*-44L to PIC16C84SO]

## PIC16C74*-44L
designator IC?, comment MICROCONTROLLER   EPROM/ROM-based Source: http://www.microchip.com/.. 30390e.pdf Note:This product is obsolete.
MPN: PIC16C74B-20/L; MF: MICROCHIP; OC_FARNELL: 9760113; OC_NEWARK: 96K3846
footprint PLCC-44
pins: 1 NC, 2 !MCLR, 3 RA0, 4 RA1, 5 RA2, 6 RA3, 7 RA4, 8 RA5, 9 RE0, 10 RE1, 11 RE2, 12 VDD (power), 13 VSS (power), 14 OSC1, 15 OSC2 (out), 16 RC0, 17 NC@1, 18 RC1, 19 RC2, 20 RC3, 21 RD0, 22 RD1, 23 RD2, 24 RD3, 25 RC4, 26 RC5, 27 RC6, 28 NC@2, 29 RC7, 30 RD4, 31 RD5, 32 RD6, 33 RD7, 34 VSS@1 (power), 35 VDD@1 (power), 36 RB0, 37 RB1, 38 RB2, 39 RB3, 40 NC@3, 41 RB4, 42 RB5, 43 RB6, 44 RB7

## PIC16C74*-44PQ
designator IC?, comment MICROCONTROLLER   EPROM/ROM-based Source: http://www.microchip.com/.. 30390e.pdf Note:This product is obsolete.
MPN: PIC16C74B-20I/PT; MF: MICROCHIP; OC_FARNELL: unknown; OC_NEWARK: 23C4798
footprint MQFP44-2
pins: 1 RC7, 2 RD4, 3 RD5, 4 RD6, 5 RD7, 6 VSS (power), 7 VDD (power), 8 RB0, 9 RB1, 10 RB2, 11 RB3, 12 NC, 13 NC@1, 14 RB4, 15 RB5, 16 RB6, 17 RB7, 18 !MCLR, 19 RA0, 20 RA1, 21 RA2, 22 RA3, 23 RA4, 24 RA5, 25 RE0, 26 RE1, 27 RE2, 28 VDD@1 (power), 29 VSS@1 (power), 30 OSC1, 31 OSC2 (out), 32 RC0, 33 NC@2, 34 NC@3, 35 RC1, 36 RC2, 37 RC3, 38 RD0, 39 RD1, 40 RD2, 41 RD3, 42 RC4, 43 RC5, 44 RC6

## PIC16C74P
designator IC?, comment MICROCONTROLLER   EPROM/ROM-based
MPN: PIC16C74B-04/P; MF: MICROCHIP; OC_FARNELL: 1084347; OC_NEWARK: 01M8479
footprint DIL40
pins: 1 !MCLR, 2 RA0, 3 RA1, 4 RA2, 5 RA3, 6 RA4, 7 RA5, 8 RE0, 9 RE1, 10 RE2, 11 VDD (power), 12 VSS (power), 13 OSC1, 14 OSC2 (out), 15 RC0 (out), 16 RC1 (out), 17 RC2 (out), 18 RC3 (out), 19 RD0, 20 RD1, 21 RD2, 22 RD3, 23 RC4 (out), 24 RC5 (out), 25 RC6 (out), 26 RC7 (out), 27 RD4, 28 RD5, 29 RD6, 30 RD7, 31 VSS@1 (power), 32 VDD@1 (power), 33 RB0, 34 RB1, 35 RB2, 36 RB3, 37 RB4, 38 RB5, 39 RB6, 40 RB7

## PIC16C84P
designator IC?, comment MICROCONTROLLER   EPROM/ROM-based
OC_FARNELL: unknown; OC_NEWARK: unknown
footprint DIL18
pins: 1 RA2, 2 RA3, 3 T0CKI/RA4, 4 !MCLR, 5 VSS (power), 6 RB0, 7 RB1, 8 RB2, 9 RB3, 10 RB4, 11 RB5, 12 RB6, 13 RB7, 14 VDD (power), 15 OSC2 (out), 16 OSC1, 17 RA0, 18 RA1

## PIC16C84SO
designator IC?, comment MICROCONTROLLER   EPROM/ROM-based
OC_FARNELL: unknown; OC_NEWARK: unknown
footprint SO-18W
pins: 1 RA2, 2 RA3, 3 T0CKI/RA4, 4 !MCLR, 5 VSS (power), 6 RB0, 7 RB1, 8 RB2, 9 RB3, 10 RB4, 11 RB5, 12 RB6, 13 RB7, 14 VDD (power), 15 OSC2 (out), 16 OSC1, 17 RA0, 18 RA1

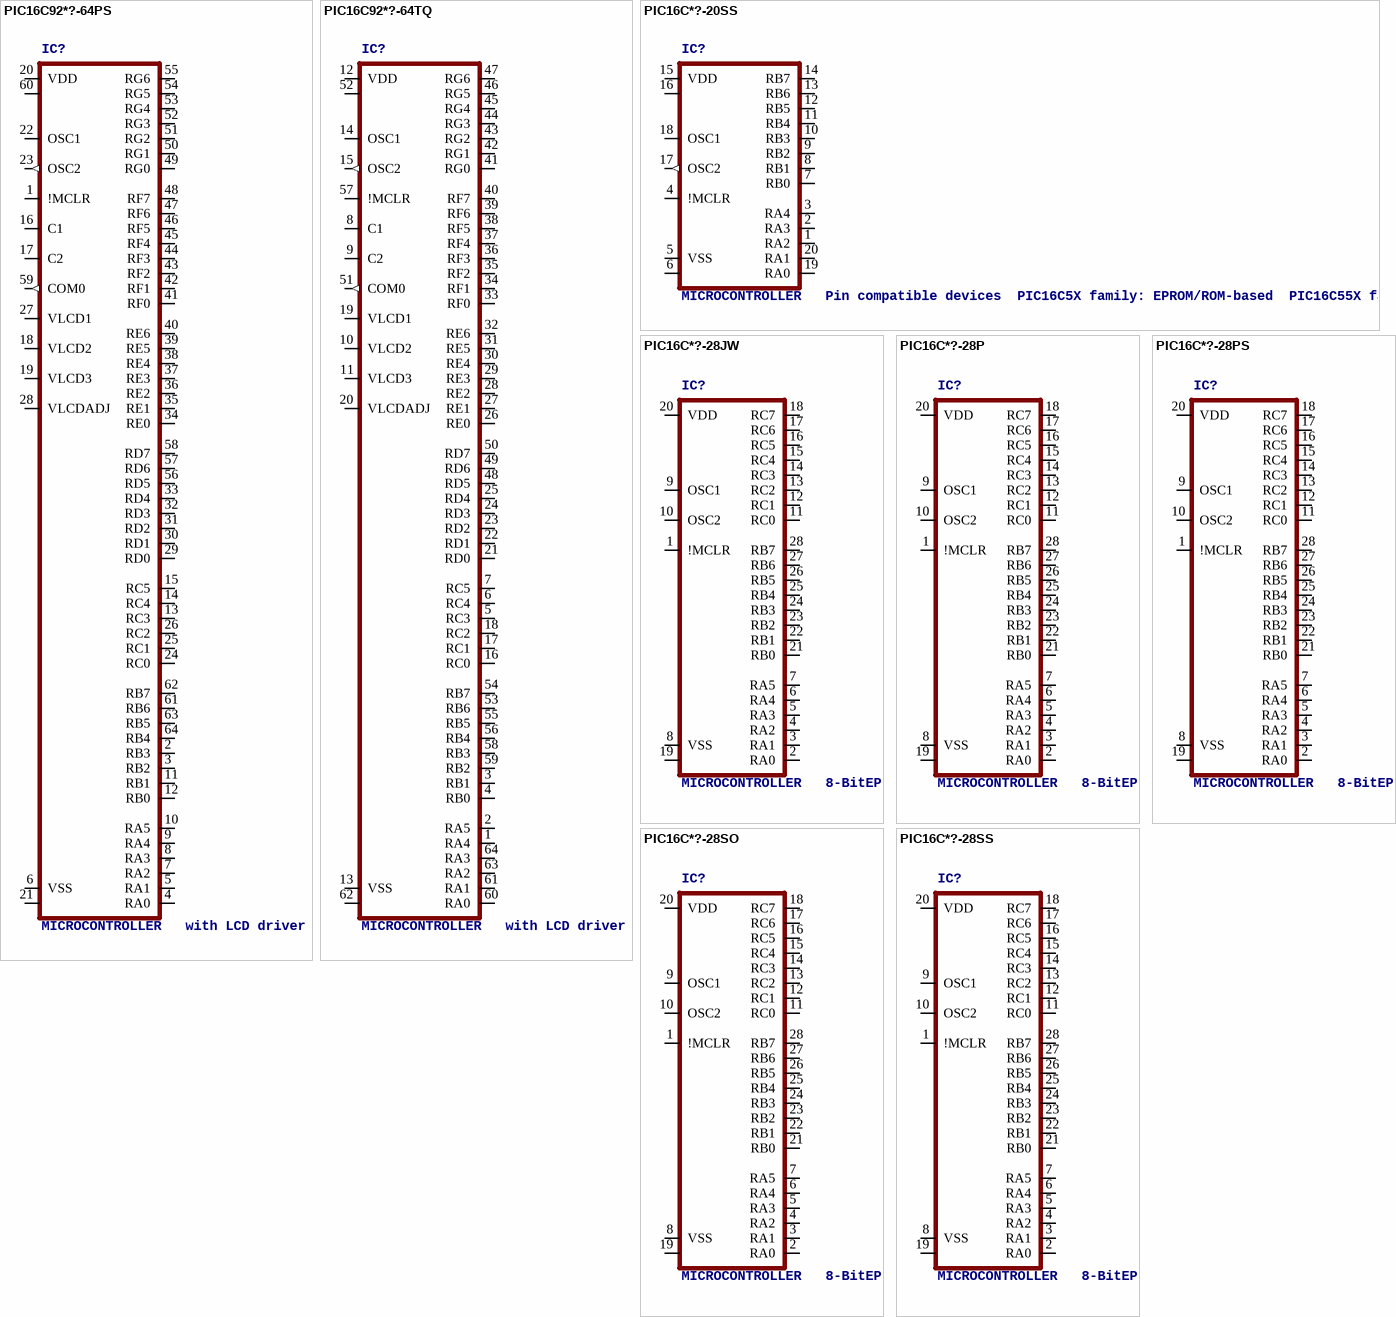
[diagram p17: symbols PIC16C92*?-64PS to PIC16C*?-28SS]

## PIC16C92*?-64PS
designator IC?, comment MICROCONTROLLER   with LCD driver
OC_FARNELL: unknown; OC_NEWARK: unknown
footprint DIL64
pins: 1 !MCLR, 2 RB3, 3 RB2, 4 RA0, 5 RA1, 6 VSS (power), 7 RA2, 8 RA3, 9 RA4, 10 RA5, 11 RB1, 12 RB0, 13 RC3, 14 RC4, 15 RC5, 16 C1, 17 C2, 18 VLCD2, 19 VLCD3, 20 VDD (power), 21 VSS@1 (power), 22 OSC1, 23 OSC2 (out), 24 RC0, 25 RC1, 26 RC2, 27 VLCD1, 28 VLCDADJ, 29 RD0, 30 RD1, 31 RD2, 32 RD3, 33 RD4, 34 RE0, 35 RE1, 36 RE2, 37 RE3, 38 RE4, 39 RE5, 40 RE6, 41 RF0, 42 RF1, 43 RF2, 44 RF3, 45 RF4, 46 RF5, 47 RF6, 48 RF7, 49 RG0, 50 RG1, 51 RG2, 52 RG3, 53 RG4, 54 RG5, 55 RG6, 56 RD5, 57 RD6, 58 RD7, 59 COM0 (out), 60 VDD@1 (power), 61 RB6, 62 RB7, 63 RB5, 64 RB4

## PIC16C92*?-64TQ
designator IC?, comment MICROCONTROLLER   with LCD driver
MPN: PIC16C923-04I/PT; MF: MICROCHIP; OC_FARNELL: unknown; OC_NEWARK: 23C4930; OC_NEWARK: unknown
footprint TQFP64-10X10
pins: 1 RA4, 2 RA5, 3 RB1, 4 RB0, 5 RC3, 6 RC4, 7 RC5, 8 C1, 9 C2, 10 VLCD2, 11 VLCD3, 12 VDD (power), 13 VSS (power), 14 OSC1, 15 OSC2 (out), 16 RC0, 17 RC1, 18 RC2, 19 VLCD1, 20 VLCDADJ, 21 RD0, 22 RD1, 23 RD2, 24 RD3, 25 RD4, 26 RE0, 27 RE1, 28 RE2, 29 RE3, 30 RE4, 31 RE5, 32 RE6, 33 RF0, 34 RF1, 35 RF2, 36 RF3, 37 RF4, 38 RF5, 39 RF6, 40 RF7, 41 RG0, 42 RG1, 43 RG2, 44 RG3, 45 RG4, 46 RG5, 47 RG6, 48 RD5, 49 RD6, 50 RD7, 51 COM0 (out), 52 VDD@1 (power), 53 RB6, 54 RB7, 55 RB5, 56 RB4, 57 !MCLR, 58 RB3, 59 RB2, 60 RA0, 61 RA1, 62 VSS@1 (power), 63 RA2, 64 RA3

## PIC16C*?-20SS
designator IC?, comment MICROCONTROLLER   Pin compatible devices  PIC16C5X family: EPROM/ROM-based  PIC16C55X family: EPROM-based  PIC16C6X family  PIC16CE62X family: analog comparators/EEPROM data memory  PIC16C7X family: A/D converter  PIC16C71X family: A/D converter    Pin compatible devices:    PIC16C154, PIC16CR154, PIC16C156, PIC16CR156, PIC16C158   PIC16CR158, PIC16C52, PIC16C54, PIC16C54A, PIC16CR54A   PIC16C56, PIC16C58A, PIC16CR58A, PIC16C61, PIC16C554   PIC16C556, PIC16C558, PIC16C620, PIC16C621, PIC16C622   PIC16C641, PIC16C642, PIC16C661, PIC16C662, PIC16C71   PIC16C710, PIC16C711, PIC16C715, PIC126F83, PIC16CR83   PIC16F84A, PIC16CR84
MPN: PIC16C54-RCI/SS; MPN: PIC16C558-20I/SS; MPN: PIC16C56-HSI/SS; MPN: PIC16C58B-04/SS; MPN: PIC16C620A-04/SS; MPN: PIC16C621-20I/SS; MPN: PIC16C622A-04/SS; MPN: PIC16C711-04/SS; MPN: PIC16C715-04/SS; MF: MICROCHIP; OC_FARNELL: unknown; OC_NEWARK: unknown; OC_NEWARK: 23C3206; OC_NEWARK: 23C3497; OC_FARNELL: 116506; OC_NEWARK: 23C3519; OC_NEWARK: 23C3738; OC_NEWARK: 23C3858; OC_NEWARK: 23C3915; OC_NEWARK: 23C3980; OC_NEWARK: 23C4469; OC_NEWARK: 23C4525
footprint SSOP20
pins: 1 RA2, 2 RA3, 3 RA4, 4 !MCLR, 5 VSS (power), 6 VSS@1 (power), 7 RB0, 8 RB1, 9 RB2, 10 RB3, 11 RB4, 12 RB5, 13 RB6, 14 RB7, 15 VDD (power), 16 VDD@1 (power), 17 OSC2 (out), 18 OSC1, 19 RA0, 20 RA1

## PIC16C*?-28JW
designator IC?, comment MICROCONTROLLER   8-BitEPROM/ROM-based   Pin compatible:   PIC16CR62, PIC16C62A, PIC16C63, PIC16CR63   PIC16C66, PIC16C72, PIC16C73A, PIC16C76
MPN: PIC16C62A-10/SP; MPN: PIC16C63-04/SP; MPN: PIC16C66/JW; MPN: PIC16C72-20/SP; MPN: PIC16C73A-10/SP; MPN: PIC16C76-04/SP; MF: MICROCHIP; OC_FARNELL: 9759557; OC_NEWARK: 23C3774; OC_FARNELL: 1084289; OC_NEWARK: 97K7238; OC_FARNELL: 685999; OC_NEWARK: 96K3820; OC_FARNELL: 1196858; OC_NEWARK: 23C4602; OC_FARNELL: 9759948; OC_NEWARK: 97K7284; OC_FARNELL: 1196836; OC_NEWARK: 97K7307; OC_FARNELL: unknown; OC_NEWARK: unknown
footprint DIL28-6
pins: 1 !MCLR, 2 RA0, 3 RA1, 4 RA2, 5 RA3, 6 RA4, 7 RA5, 8 VSS (power), 9 OSC1, 10 OSC2, 11 RC0, 12 RC1, 13 RC2, 14 RC3, 15 RC4, 16 RC5, 17 RC6, 18 RC7, 19 VSS@1 (power), 20 VDD (power), 21 RB0, 22 RB1, 23 RB2, 24 RB3, 25 RB4, 26 RB5, 27 RB6, 28 RB7

## PIC16C*?-28P
designator IC?, comment MICROCONTROLLER   8-BitEPROM/ROM-based   Pin compatible:   PIC16CR62, PIC16C62A, PIC16C63, PIC16CR63   PIC16C66, PIC16C72, PIC16C73A, PIC16C76
MPN: PIC16C62A-10/SP; MPN: PIC16C63-04I/SP; MPN: PIC16C66-04I/SP; MPN: PIC16C72-04/SO; MPN: PIC16C73A-20I/SP; MPN: PIC16C76-20/SP; MF: MICROCHIP; OC_FARNELL: 9759557; OC_NEWARK: 23C3774; OC_FARNELL: 9759590; OC_NEWARK: 23C4025; OC_FARNELL: 9759735; OC_NEWARK: 23C4276; OC_FARNELL: 1196858; OC_NEWARK: 23C4583; OC_FARNELL: 1815911; OC_NEWARK: 23C4675; OC_FARNELL: 1196859; OC_NEWARK: 12C1934; OC_FARNELL: unknown; OC_NEWARK: unknown
footprint DIL28-3
pins: 1 !MCLR, 2 RA0, 3 RA1, 4 RA2, 5 RA3, 6 RA4, 7 RA5, 8 VSS (power), 9 OSC1, 10 OSC2, 11 RC0, 12 RC1, 13 RC2, 14 RC3, 15 RC4, 16 RC5, 17 RC6, 18 RC7, 19 VSS@1 (power), 20 VDD (power), 21 RB0, 22 RB1, 23 RB2, 24 RB3, 25 RB4, 26 RB5, 27 RB6, 28 RB7